# Altium schematic symbol library LimeMicroAltiumLib_schLib.SchLib: 200 symbols (part 6 of 8)
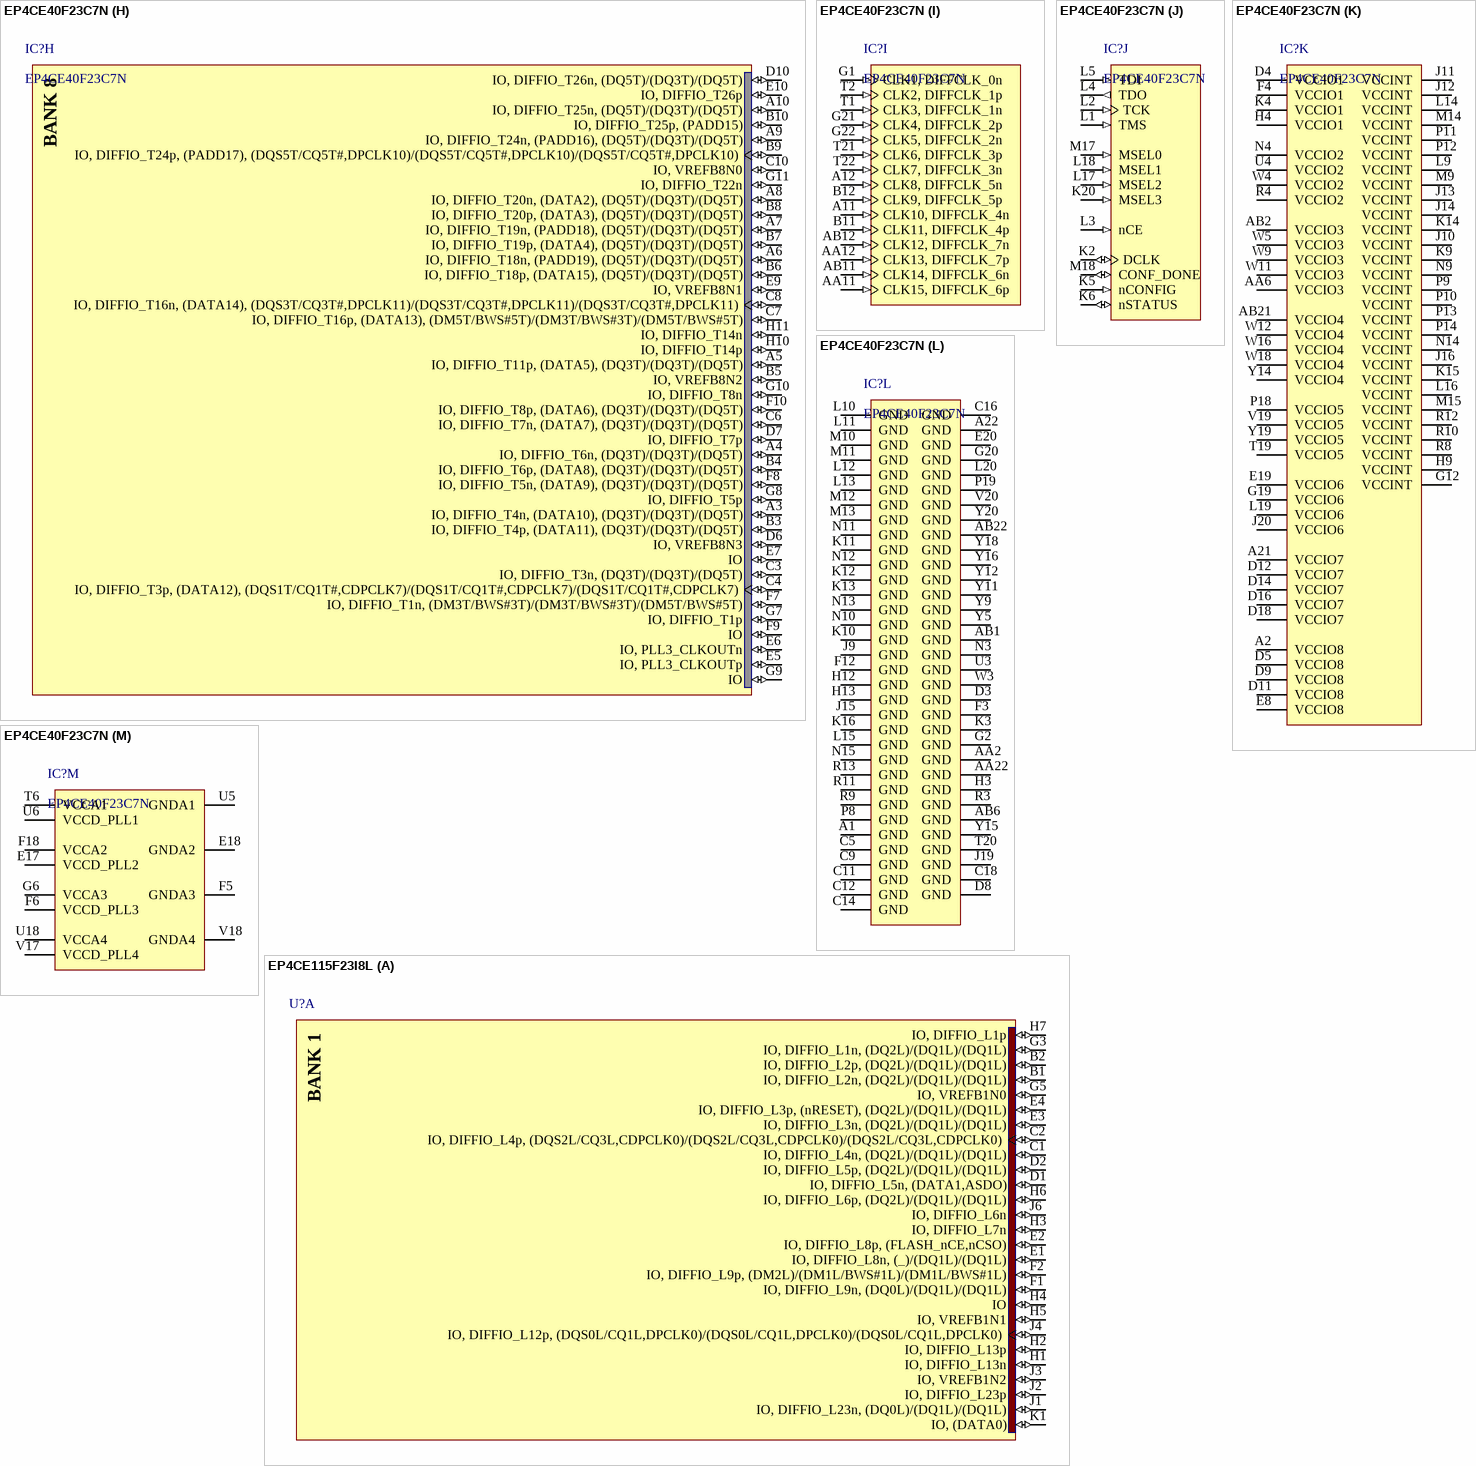
[diagram p39: symbols EP4CE40F23C7N to EP4CE115F23I8L]

## EP4CE40F23C7N
designator IC?
Cyclone IV Family FPGA, 1.2V Core, 328 I/O Pins, 4 PLLs, 484-Pin FBGA, Speed Grade 7, Commercial Grade, Pb-Free; Manufacturer: Altera; DatasheetVersion: ver1.6, Nov-2011; PackageVersion: ver1.0, Jun-2011; PackageReference: FBGA484_A-240; PackageDescription: 484-Pin FineLine Ball Grid Array (FBGA) - Wire Bond - A:2.40; Code_JEDEC: MS-034-AAJ-1; ComponentLink1Description: Manufacturer URL; ComponentLink1URL: http://www.altera.com/; ComponentLink2Description: Handbook; ComponentLink2URL: http://www.altera.com/literature/hb/cyclone-iv/cyclone4-handbook.pdf; ComponentLink3Description: Pinout; ComponentLink3URL: http://www.altera.com/literature/lit-dp.jsp?category=cyc%204&showspreadsheet=y; ComponentLink4Description: Package Specification; ComponentLink4URL: http://www.altera.com/devicepackaging/04R00247-02.pdf
footprint FBGA484_A-240 (BGA, 484-Leads, Body 23x23mm, Pitch 1mm)
part A pins: B1 IO, DIFFIO_L2n, (DQ2L)/(DQ1L)/(DQ1L) (io), B2 IO, DIFFIO_L2p, (DQ2L)/(DQ1L)/(DQ1L) (io), C1 IO, DIFFIO_L7n, (DQ2L)/(DQ1L)/(DQ1L) (io), C2 IO, DIFFIO_L7p, (DQS2L/CQ3L,CDPCLK0)/(DQS2L/CQ3L,CDPCLK0)/(DQS2L/CQ3L,CDPCLK0) (io), D1 IO, DIFFIO_L8n, (DATA1,ASDO) (io), D2 IO, DIFFIO_L8p, (DQ2L)/(DQ1L)/(DQ1L) (io), E1 IO, DIFFIO_L10n, (_)/(DQ1L)/(DQ1L) (io), E2 IO, DIFFIO_L10p, (FLASH_nCE,nCSO) (io), E3 IO, DIFFIO_L4n, (DQ2L)/(DQ1L)/(DQ1L) (io), E4 IO, DIFFIO_L4p, (nRESET), (DQ2L)/(DQ1L)/(DQ1L) (io), F1 IO, DIFFIO_L12n, (DQ0L)/(DQ1L)/(DQ1L) (io), F2 IO, DIFFIO_L12p, (DM2L)/(DM1L/BWS#1L)/(DM1L/BWS#1L) (io), G3 IO, DIFFIO_L1n (io), G4 IO, DIFFIO_L1p (io), G5 IO, VREFB1N0 (io), H1 IO, DIFFIO_L23n, (DQ0L)/(DQ1L)/(DQ1L) (io), H2 IO, DIFFIO_L23p, (DQ0L)/(DQ1L)/(DQ1L) (io), H5 IO, VREFB1N2 (io), H6 IO, DIFFIO_L9p, (DQ2L)/(DQ1L)/(DQ1L) (io), H7 IO, VREFB1N1 (io), H8 IO, DIFFIO_L14p (io), J1 IO, DIFFIO_L24n, (DQ0L)/(DQ1L)/(DQ1L) (io), J2 IO, DIFFIO_L24p, (DQ0L)/(DQ1L)/(DQ1L) (io), J3 IO, VREFB1N3 (io), J4 IO, (DQS0L/CQ1L,DPCLK0)/(DQS0L/CQ1L,DPCLK0)/(DQS0L/CQ1L,DPCLK0) (io), J5 IO, DIFFIO_L18n (io), J6 IO, DIFFIO_L9n, (DQ2L)/(DQ1L)/(DQ1L) (io), J7 IO, DIFFIO_L21p (io), J8 IO, DIFFIO_L14n (io), K1 IO, (DATA0) (io), K7 IO, DIFFIO_L21n (io), K8 IO, DIFFIO_L20n (io), L8 IO, DIFFIO_L20p (io)
part B pins: AA1 IO, DIFFIO_L50n, (DQ3L)/(DQ3L)/(DQ1L) (io), L6 IO, DIFFIO_L26p, (DQ0L)/(DQ1L)/(DQ1L) (io), L7 IO, DIFFIO_L30n (io), M1 IO, DIFFIO_L27n, (_)/(DQ1L)/(DQ1L) (io), M2 IO, DIFFIO_L27p, (DQ0L)/(DQ1L)/(DQ1L) (io), M3 IO, DIFFIO_L28n, (DQ1L)/(DQ3L)/(DQ1L) (io), M4 IO, DIFFIO_L28p, (DM0L)/(DM1L/BWS#1L)/(DM1L/BWS#1L) (io), M5 IO, VREFB2N0 (io), M6 IO, DIFFIO_L26n, (DQ0L)/(DQ1L)/(DQ1L) (io), M7 IO, DIFFIO_L41n (io), M8 IO, DIFFIO_L42p (io), N1 IO, DIFFIO_L29n, (DQ1L)/(DQ3L)/(DQ1L) (io), N2 IO, DIFFIO_L29p, (DQ1L)/(DQ3L)/(DQ1L) (io), N5 IO, (DQ1L)/(DQ3L)/(DQ1L) (io), N6 IO, DIFFIO_L41p, (DQ3L)/(DQ3L)/(DQ1L) (io), N7 IO, DIFFIO_L49p (io), N8 IO, DIFFIO_L42n (io), P1 IO, DIFFIO_L32n, (DQ1L)/(DQ3L)/(DQ1L) (io), P2 IO, DIFFIO_L32p, (DQ1L)/(DQ3L)/(DQ1L) (io), P3 IO, DIFFIO_L34n, (DQ1L)/(DQ3L)/(DQ1L) (io), P4 IO, DIFFIO_L34p, (DQS1L/CQ1L#,DPCLK1)/(DQS1L/CQ1L#,DPCLK1)/(DQS1L/CQ1L#,DPCLK1) (io), P5 IO, VREFB2N1 (io), P6 IO, DIFFIO_L52p (io), P7 IO, DIFFIO_L49n (io), R1 IO, DIFFIO_L33n, (DQ1L)/(DQ3L)/(DQ1L) (io), R2 IO, DIFFIO_L33p, (DQ1L)/(DQ3L)/(DQ1L) (io), R5 IO, VREFB2N3 (io), R6 IO (io), R7 IO, DIFFIO_L53p (io), T3 IO, VREFB2N2 (io), T4 IO, (DQS3L/CQ3L#,CDPCLK1)/(DQS3L/CQ3L#,CDPCLK1)/(DQS3L/CQ3L#,CDPCLK1) (io), T5 IO, (DM3L/BWS#3L)/(DM3L/BWS#3L)/(DM1L/BWS#1L) (io), T7 IO, DIFFIO_L53n (io), U1 IO, DIFFIO_L35n, (DQ3L)/(DQ3L)/(DQ1L) (io), U2 IO, DIFFIO_L35p, (DM1L/BWS#1L)/(DM3L/BWS#3L)/(DM1L/BWS#1L) (io), V1 IO, DIFFIO_L38n, (DQ3L)/(DQ3L)/(DQ1L) (io), V2 IO, DIFFIO_L38p, (DQ3L)/(DQ3L)/(DQ1L) (io), V3 IO, RDN1 (io), V4 IO, RUP1 (io), W1 IO, DIFFIO_L44n, (DQ3L)/(DQ3L)/(DQ1L) (io), W2 IO, DIFFIO_L44p, (DQ3L)/(DQ3L)/(DQ1L) (io), Y1 IO, DIFFIO_L45n, (DQ3L)/(DQ3L)/(DQ1L) (io), Y2 IO, DIFFIO_L45p, (DQ3L)/(DQ3L)/(DQ1L) (io)
part C pins: AA3 IO, PLL1_CLKOUTp (io), AA4 IO, (DQ3B)/(DQ3B)/(DQ5B) (io), AA5 IO, DIFFIO_B8p, (DQ3B)/(DQ3B)/(DQ5B) (io), AA7 IO, DIFFIO_B14p, (DM5B/BWS#5B)/(DM3B/BWS#3B)/(DM5B/BWS#5B) (io), AA8 IO, DIFFIO_B18p, (DQ5B)/(DQ3B)/(DQ5B) (io), AA9 IO, DIFFIO_B21p, (DQ5B)/(DQ3B)/(DQ5B) (io), AA10 IO, DIFFIO_B27p, (DM4B)/(DM5B/BWS#5B)/(DM5B/BWS#5B) (io), AB3 IO, PLL1_CLKOUTn (io), AB4 IO, VREFB3N2 (io), AB5 IO, DIFFIO_B8n (io), AB7 IO, DIFFIO_B14n, (DQ5B)/(DQ3B)/(DQ5B) (io), AB8 IO, DIFFIO_B18n, (DQ5B)/(DQ3B)/(DQ5B) (io), AB9 IO, DIFFIO_B21n, (DQS5B/CQ5B#,DPCLK3)/(DQS5B/CQ5B#,DPCLK3)/(DQS5B/CQ5B#,DPCLK3) (io), AB10 IO, DIFFIO_B27n, (_)/(DQ5B)/(DQ5B) (io), T8 IO, DIFFIO_B11p (io), T9 IO, DIFFIO_B11n (io), T10 IO, DIFFIO_B15p (io), T11 IO, DIFFIO_B15n (io), U7 IO, DIFFIO_B3p (io), U8 IO, DIFFIO_B3n (io), U9 IO, DIFFIO_B13p, (DQ3B)/(DQ3B)/(DQ5B) (io), U10 IO, DIFFIO_B17n, (DQ5B)/(DQ3B)/(DQ5B) (io), U11 IO, VREFB3N0 (io), V5 IO, DIFFIO_B1n, (DM3B/BWS#3B)/(DM3B/BWS#3B)/(DM5B/BWS#5B) (io), V6 IO, DIFFIO_B1p (io), V7 IO, DIFFIO_B7n (io), V8 IO, DIFFIO_B13n, (DQ3B)/(DQ3B)/(DQ5B) (io), V9 IO, VREFB3N1 (io), V10 IO, DIFFIO_B16p, (DQS3B/CQ3B#,DPCLK2)/(DQS3B/CQ3B#,DPCLK2)/(DQS3B/CQ3B#,DPCLK2) (io), V11 IO, DIFFIO_B25n, (DQ5B)/(DQ3B)/(DQ5B) (io), W6 IO, DIFFIO_B7p, (DQ3B)/(DQ3B)/(DQ5B) (io), W7 IO, DIFFIO_B12p, (DQ3B)/(DQ3B)/(DQ5B) (io), W8 IO, (DQ3B)/(DQ3B)/(DQ5B) (io), W10 IO, DIFFIO_B26p, (DQ5B)/(DQ3B)/(DQ5B) (io), Y3 IO, DIFFIO_B4p, (DQ3B)/(DQ3B)/(DQ5B) (io), Y4 IO, VREFB3N3 (io), Y6 IO, DIFFIO_B6p, (DQS1B/CQ1B#,CDPCLK2)/(DQS1B/CQ1B#,CDPCLK2)/(DQS1B/CQ1B#,CDPCLK2) (io), Y7 IO, DIFFIO_B12n, (DQ3B)/(DQ3B)/(DQ5B) (io), Y8 IO, (DQ5B)/(DQ3B)/(DQ5B) (io), Y10 IO, DIFFIO_B26n, (DQ5B)/(DQ3B)/(DQ5B) (io)
part D pins: AA13 IO, DIFFIO_B28p, (DQ4B)/(DQ5B)/(DQ5B) (io), AA14 IO, DIFFIO_B29p, (DQ4B)/(DQ5B)/(DQ5B) (io), AA15 IO, DIFFIO_B33p, (DQ4B)/(DQ5B)/(DQ5B) (io), AA16 IO, DIFFIO_B35p, (DM2B)/(DM5B/BWS#5B)/(DM5B/BWS#5B) (io), AA17 IO, DIFFIO_B43p (io), AA18 IO, VREFB4N1 (io), AA19 IO, RUP2 (io), AA20 IO, DIFFIO_B49p, (_)/(DQ5B)/(DQ5B) (io), AB13 IO, DIFFIO_B28n, (DQ4B)/(DQ5B)/(DQ5B) (io), AB14 IO, DIFFIO_B29n, (DQ4B)/(DQ5B)/(DQ5B) (io), AB15 IO, DIFFIO_B33n, (DQ4B)/(DQ5B)/(DQ5B) (io), AB16 IO, DIFFIO_B35n, (DQ2B)/(DQ5B)/(DQ5B) (io), AB17 IO, DIFFIO_B43n (io), AB18 IO, (DQ2B)/(DQ5B)/(DQ5B) (io), AB19 IO, RDN2 (io), AB20 IO, DIFFIO_B49n, (DQ2B)/(DQ5B)/(DQ5B) (io), R14 IO, DIFFIO_B52p (io), R15 IO, DIFFIO_B52n (io), R16 IO, PLL4_CLKOUTn (io), T12 IO, DIFFIO_B36p (io), T13 IO, DIFFIO_B36n (io), T14 IO, DIFFIO_B42p (io), T15 IO, DIFFIO_B42n, (DQ2B)/(DQ5B)/(DQ5B) (io), T16 IO, PLL4_CLKOUTp (io), U12 IO, DIFFIO_B34p, (DQ4B)/(DQ5B)/(DQ5B) (io), U13 IO, DIFFIO_B38n (io), U14 IO, DIFFIO_B39n (io), U15 IO, DIFFIO_B40p (io), U16 IO, DIFFIO_B50p (io), U17 IO, DIFFIO_B50n (io), V12 IO, VREFB4N3 (io), V13 IO, (DQS2B/CQ3B,DPCLK5)/(DQS2B/CQ3B,DPCLK5)/(DQS2B/CQ3B,DPCLK5) (io), V14 IO, DIFFIO_B39p, (DQ2B)/(DQ5B)/(DQ5B) (io), V15 IO, DIFFIO_B40n, (DQ2B)/(DQ5B)/(DQ5B) (io), V16 IO, VREFB4N0 (io), W13 IO, DIFFIO_B32p, (DQ4B)/(DQ5B)/(DQ5B) (io), W14 IO, VREFB4N2 (io), W15 IO, DIFFIO_B41n, (DQ2B)/(DQ5B)/(DQ5B) (io), W17 IO, DIFFIO_B48p, (DQ2B)/(DQ5B)/(DQ5B) (io), Y13 IO, DIFFIO_B32n, (DQS4B/CQ5B,DPCLK4)/(DQS4B/CQ5B,DPCLK4)/(DQS4B/CQ5B,DPCLK4) (io), Y17 IO, DIFFIO_B48n, (DQS0B/CQ1B,CDPCLK3)/(DQS0B/CQ1B,CDPCLK3)/(DQS0B/CQ1B,CDPCLK3) (io)
part E pins: AA21 IO, DIFFIO_R56p, (DM3R/BWS#3R)/(DM3R/BWS#3R)/(DM1R/BWS#1R) (io), M16 IO, VREFB5N0 (io), M19 IO, DIFFIO_R30p, (DQ1R)/(DQ3R)/(DQ1R) (io), M20 IO, DIFFIO_R30n, (DQ1R)/(DQ3R)/(DQ1R) (io), M21 IO, DIFFIO_R31p, (DQ1R)/(DQ3R)/(DQ1R) (io), M22 IO, DIFFIO_R31n, (DQ1R)/(DQ3R)/(DQ1R) (io), N16 IO, DIFFIO_R40p (io), N17 IO, DIFFIO_R33n (io), N18 IO, DIFFIO_R33p, (DQS1R/CQ1R#,DPCLK6)/(DQS1R/CQ1R#,DPCLK6)/(DQS1R/CQ1R#,DPCLK6) (io), N19 IO, DIFFIO_R36p (io), N20 IO, DIFFIO_R36n, (DQ1R)/(DQ3R)/(DQ1R) (io), N21 IO, DIFFIO_R32p, (DEV_CLRn) (io), N22 IO, DIFFIO_R32n, (DEV_OE) (io), P15 IO, DIFFIO_R46n (io), P16 IO, DIFFIO_R46p (io), P17 IO (io), P20 IO, VREFB5N1 (io), P21 IO, DIFFIO_R38p, (DQ1R)/(DQ3R)/(DQ1R) (io), P22 IO, DIFFIO_R38n, (DQ1R)/(DQ3R)/(DQ1R) (io), R17 IO, VREFB5N2 (io), R18 IO, DIFFIO_R42n (io), R19 IO, DIFFIO_R42p, (DM1R/BWS#1R)/(DM3R/BWS#3R)/(DM1R/BWS#1R) (io), R20 IO, DIFFIO_R44n, (DQ3R)/(DQ3R)/(DQ1R) (io), R21 IO, DIFFIO_R39p, (DQ1R)/(DQ3R)/(DQ1R) (io), R22 IO, DIFFIO_R39n, (DQ1R)/(DQ3R)/(DQ1R) (io), T17 IO, RUP3 (io), T18 IO, RDN3 (io), U19 IO, DIFFIO_R50p (io), U20 IO, DIFFIO_R50n, (DQ3R)/(DQ3R)/(DQ1R) (io), U21 IO, DIFFIO_R43p, (DQ3R)/(DQ3R)/(DQ1R) (io), U22 IO, DIFFIO_R43n, (DQ3R)/(DQ3R)/(DQ1R) (io), V21 IO, DIFFIO_R45p, (DQ3R)/(DQ3R)/(DQ1R) (io), V22 IO, DIFFIO_R45n, (DQ3R)/(DQ3R)/(DQ1R) (io), W19 IO, VREFB5N3 (io), W20 IO, (DQS3R/CQ3R#,CDPCLK4)/(DQS3R/CQ3R#,CDPCLK4)/(DQS3R/CQ3R#,CDPCLK4) (io), W21 IO, DIFFIO_R49p, (DQ3R)/(DQ3R)/(DQ1R) (io), W22 IO, DIFFIO_R49n, (DQ3R)/(DQ3R)/(DQ1R) (io), Y21 IO, DIFFIO_R51p (io), Y22 IO, DIFFIO_R51n, (DQ3R)/(DQ3R)/(DQ1R) (io)
part F pins: B21 IO, DIFFIO_R5p, (PADD21), (DQ2R)/(DQ1R)/(DQ1R) (io), B22 IO, DIFFIO_R5n, (PADD22), (DQ2R)/(DQ1R)/(DQ1R) (io), C20 IO, DIFFIO_R4n, (PADD20), (DQS2R/CQ3R,CDPCLK5)/(DQS2R/CQ3R,CDPCLK5)/(DQS2R/CQ3R,CDPCLK5) (io), C21 IO, DIFFIO_R6p, (DQ2R)/(DQ1R)/(DQ1R) (io), C22 IO, DIFFIO_R6n, (DQ2R)/(DQ1R)/(DQ1R) (io), D20 IO, VREFB6N0 (io), D21 IO, DIFFIO_R9p, (_)/(DQ1R)/(DQ1R) (io), D22 IO, DIFFIO_R9n, (DM2R)/(DM1R/BWS#1R)/(DM1R/BWS#1R) (io), E21 IO, DIFFIO_R12p, (nOE), (_)/(DQ1R)/(DQ1R) (io), E22 IO, DIFFIO_R12n, (nWE), (DQ0R)/(DQ1R)/(DQ1R) (io), F17 IO, DIFFIO_R2n, (DQ2R)/(DQ1R)/(DQ1R) (io), F19 IO, DIFFIO_R8p, (DQ2R)/(DQ1R)/(DQ1R) (io), F20 IO, DIFFIO_R8n, (nAVD), (DQ2R)/(DQ1R)/(DQ1R) (io), F21 IO, DIFFIO_R18p, (DQ0R)/(DQ1R)/(DQ1R) (io), F22 IO, DIFFIO_R18n, (DQ0R)/(DQ1R)/(DQ1R) (io), G17 IO, DIFFIO_R2p (io), G18 IO, DIFFIO_R7n, (PADD23), (DQ2R)/(DQ1R)/(DQ1R) (io), H16 IO, DIFFIO_R10p (io), H17 IO, DIFFIO_R7p (io), H18 IO, VREFB6N1 (io), H19 IO, DIFFIO_R13p, (DQ0R)/(DQ1R)/(DQ1R) (io), H20 IO, DIFFIO_R13n, (DQ0R)/(DQ1R)/(DQ1R) (io), H21 IO, DIFFIO_R22p, (DQ0R)/(DQ1R)/(DQ1R) (io), H22 IO, DIFFIO_R22n, (DQ0R)/(DQ1R)/(DQ1R) (io), J17 IO, DIFFIO_R10n (io), J18 IO, VREFB6N2 (io), J21 IO, DIFFIO_R23p, (DM0R)/(DM1R/BWS#1R)/(DM1R/BWS#1R) (io), J22 IO, DIFFIO_R23n, (DQS0R/CQ1R,DPCLK7)/(DQS0R/CQ1R,DPCLK7)/(DQS0R/CQ1R,DPCLK7) (io), K17 IO, DIFFIO_R20n (io), K18 IO, DIFFIO_R20p, (DQ0R)/(DQ1R)/(DQ1R) (io), K19 IO, VREFB6N3 (io), K21 IO, DIFFIO_R24p, (CLKUSR) (io), K22 IO, DIFFIO_R24n, (nCEO) (io), L21 IO, DIFFIO_R27p, (CRC_ERROR) (io), L22 IO, DIFFIO_R27n, (INIT_DONE) (io)
part G pins: A13 IO, DIFFIO_T29n, (PADD11), (DQ4T)/(DQ5T)/(DQ5T) (io), A14 IO, DIFFIO_T31n, (PADD9), (DQ4T)/(DQ5T)/(DQ5T) (io), A15 IO, DIFFIO_T36n, (PADD5), (DQ4T)/(DQ5T)/(DQ5T) (io), A16 IO, DIFFIO_T40n, (DM2T)/(DM5T/BWS#5T)/(DM5T/BWS#5T) (io), A17 IO, DIFFIO_T41n, (PADD1), (DQ2T)/(DQ5T)/(DQ5T) (io), A18 IO, DIFFIO_T45n, (DQ2T)/(DQ5T)/(DQ5T) (io), A19 IO, RDN4 (io), A20 IO, PLL2_CLKOUTn (io), B13 IO, DIFFIO_T29p, (PADD12), (DQS4T/CQ5T,DPCLK9)/(DQS4T/CQ5T,DPCLK9)/(DQS4T/CQ5T,DPCLK9) (io), B14 IO, DIFFIO_T31p, (PADD10), (DQ4T)/(DQ5T)/(DQ5T) (io), B15 IO, DIFFIO_T36p, (PADD6), (DQ4T)/(DQ5T)/(DQ5T) (io), B16 IO, DIFFIO_T40p, (DQ4T)/(DQ5T)/(DQ5T) (io), B17 IO, DIFFIO_T41p, (PADD2), (_)/(DQ5T)/(DQ5T) (io), B18 IO, DIFFIO_T45p, (PADD0) (io), B19 IO, RUP4 (io), B20 IO, PLL2_CLKOUTp (io), C13 IO, DIFFIO_T35n, (PADD7) (io), C15 IO, VREFB7N2 (io), C17 IO, DIFFIO_T46p, (DQ2T)/(DQ5T)/(DQ5T) (io), C19 IO, DIFFIO_T47n, (DQ2T)/(DQ5T)/(DQ5T) (io), D13 IO, DIFFIO_T35p, (PADD8), (DQ4T)/(DQ5T)/(DQ5T) (io), D15 IO, VREFB7N1 (io), D17 IO, VREFB7N0 (io), D19 IO, DIFFIO_T47p, (DQ2T)/(DQ5T)/(DQ5T) (io), E11 IO, DIFFIO_T27n, (PADD13) (io), E12 IO, DIFFIO_T28p, (_)/(DQ5T)/(DQ5T) (io), E13 IO, VREFB7N3 (io), E14 IO, DIFFIO_T38n, (PADD3), (DQ4T)/(DQ5T)/(DQ5T) (io), E15 IO, DIFFIO_T44n, (DQ2T)/(DQ5T)/(DQ5T) (io), E16 IO, DIFFIO_T51p, (DQ2T)/(DQ5T)/(DQ5T) (io), F11 IO, DIFFIO_T27p, (PADD14), (DM4T)/(DM5T/BWS#5T)/(DM5T/BWS#5T) (io), F13 IO, DIFFIO_T37p, (PADD4), (DQS2T/CQ3T,DPCLK8)/(DQS2T/CQ3T,DPCLK8)/(DQS2T/CQ3T,DPCLK8) (io), F14 IO, DIFFIO_T49p, (DQS0T/CQ1T,CDPCLK6)/(DQS0T/CQ1T,CDPCLK6)/(DQS0T/CQ1T,CDPCLK6) (io), F15 IO, DIFFIO_T50n, (DQ2T)/(DQ5T)/(DQ5T) (io), F16 IO, DIFFIO_T51n (io), G13 IO, DIFFIO_T42n (io), G14 IO, DIFFIO_T44p (io), G15 IO, DIFFIO_T49n (io), G16 IO, DIFFIO_T50p (io), H14 IO, DIFFIO_T48p (io), H15 IO, DIFFIO_T48n (io)
part H pins: A3 IO, DIFFIO_T4n, (DATA10), (DQ3T)/(DQ3T)/(DQ5T) (io), A4 IO, DIFFIO_T6n, (DQ3T)/(DQ3T)/(DQ5T) (io), A5 IO, DIFFIO_T11p, (DATA5), (DQ3T)/(DQ3T)/(DQ5T) (io), A6 IO, DIFFIO_T18n, (PADD19), (DQ5T)/(DQ3T)/(DQ5T) (io), A7 IO, DIFFIO_T19n, (PADD18), (DQ5T)/(DQ3T)/(DQ5T) (io), A8 IO, DIFFIO_T20n, (DATA2), (DQ5T)/(DQ3T)/(DQ5T) (io), A9 IO, DIFFIO_T24n, (PADD16), (DQ5T)/(DQ3T)/(DQ5T) (io), A10 IO, DIFFIO_T25n, (DQ5T)/(DQ3T)/(DQ5T) (io), B3 IO, DIFFIO_T4p, (DATA11), (DQ3T)/(DQ3T)/(DQ5T) (io), B4 IO, DIFFIO_T6p, (DATA8), (DQ3T)/(DQ3T)/(DQ5T) (io), B5 IO, VREFB8N2 (io), B6 IO, DIFFIO_T18p, (DATA15), (DQ5T)/(DQ3T)/(DQ5T) (io), B7 IO, DIFFIO_T19p, (DATA4), (DQ5T)/(DQ3T)/(DQ5T) (io), B8 IO, DIFFIO_T20p, (DATA3), (DQ5T)/(DQ3T)/(DQ5T) (io), B9 IO, DIFFIO_T24p, (PADD17), (DQS5T/CQ5T#,DPCLK10)/(DQS5T/CQ5T#,DPCLK10)/(DQS5T/CQ5T#,DPCLK10) (io), B10 IO, DIFFIO_T25p, (PADD15) (io), C3 IO, DIFFIO_T3n, (DQ3T)/(DQ3T)/(DQ5T) (io), C4 IO, DIFFIO_T3p, (DATA12), (DQS1T/CQ1T#,CDPCLK7)/(DQS1T/CQ1T#,CDPCLK7)/(DQS1T/CQ1T#,CDPCLK7) (io), C6 IO, DIFFIO_T7n, (DATA7), (DQ3T)/(DQ3T)/(DQ5T) (io), C7 IO, DIFFIO_T16p, (DATA13), (DM5T/BWS#5T)/(DM3T/BWS#3T)/(DM5T/BWS#5T) (io), C8 IO, DIFFIO_T16n, (DATA14), (DQS3T/CQ3T#,DPCLK11)/(DQS3T/CQ3T#,DPCLK11)/(DQS3T/CQ3T#,DPCLK11) (io), C10 IO, VREFB8N0 (io), D6 IO, VREFB8N3 (io), D7 IO, DIFFIO_T7p (io), D10 IO, DIFFIO_T26n, (DQ5T)/(DQ3T)/(DQ5T) (io), E5 IO, PLL3_CLKOUTp (io), E6 IO, PLL3_CLKOUTn (io), E7 IO (io), E9 IO, VREFB8N1 (io), E10 IO, DIFFIO_T26p (io), F7 IO, DIFFIO_T1n, (DM3T/BWS#3T)/(DM3T/BWS#3T)/(DM5T/BWS#5T) (io), F8 IO, DIFFIO_T5n, (DATA9), (DQ3T)/(DQ3T)/(DQ5T) (io), F9 IO (io), F10 IO, DIFFIO_T8p, (DATA6), (DQ3T)/(DQ3T)/(DQ5T) (io), G7 IO, DIFFIO_T1p (io), G8 IO, DIFFIO_T5p (io), G9 IO (io), G10 IO, DIFFIO_T8n (io), G11 IO, DIFFIO_T22n (io), H10 IO, DIFFIO_T14p (io), H11 IO, DIFFIO_T14n (io)
part I pins: A11 CLK10, DIFFCLK_4n (in), A12 CLK8, DIFFCLK_5n (in), AA11 CLK15, DIFFCLK_6p (in), AA12 CLK13, DIFFCLK_7p (in), AB11 CLK14, DIFFCLK_6n (in), AB12 CLK12, DIFFCLK_7n (in), B11 CLK11, DIFFCLK_4p (in), B12 CLK9, DIFFCLK_5p (in), G1 CLK1, DIFFCLK_0n (in), G21 CLK4, DIFFCLK_2p (in), G22 CLK5, DIFFCLK_2n (in), T1 CLK3, DIFFCLK_1n (in), T2 CLK2, DIFFCLK_1p (in), T21 CLK6, DIFFCLK_3p (in), T22 CLK7, DIFFCLK_3n (in)
part J pins: K2 DCLK (io), K5 nCONFIG (in), K6 nSTATUS (io), K20 MSEL3 (in), L1 TMS (in), L2 TCK (in), L3 nCE (in), L4 TDO (out), L5 TDI (in), L17 MSEL2 (in), L18 MSEL1 (in), M17 MSEL0 (in), M18 CONF_DONE (io)
part K pins: A2 VCCIO8 (power), A21 VCCIO7 (power), AA6 VCCIO3 (power), AB2 VCCIO3 (power), AB21 VCCIO4 (power), D4 VCCIO1 (power), D5 VCCIO8 (power), D9 VCCIO8 (power), D11 VCCIO8 (power), D12 VCCIO7 (power), D14 VCCIO7 (power), D16 VCCIO7 (power), D18 VCCIO7 (power), E8 VCCIO8 (power), E19 VCCIO6 (power), F4 VCCIO1 (power), G12 VCCINT (power), G19 VCCIO6 (power), H4 VCCIO1 (power), H9 VCCINT (power), J10 VCCINT (power), J11 VCCINT (power), J12 VCCINT (power), J13 VCCINT (power), J14 VCCINT (power), J16 VCCINT (power), J20 VCCIO6 (power), K4 VCCIO1 (power), K9 VCCINT (power), K14 VCCINT (power), K15 VCCINT (power), L9 VCCINT (power), L14 VCCINT (power), L16 VCCINT (power), L19 VCCIO6 (power), M9 VCCINT (power), M14 VCCINT (power), M15 VCCINT (power), N4 VCCIO2 (power), N9 VCCINT (power), N14 VCCINT (power), P9 VCCINT (power), P10 VCCINT (power), P11 VCCINT (power), P12 VCCINT (power), P13 VCCINT (power), P14 VCCINT (power), P18 VCCIO5 (power), R4 VCCIO2 (power), R8 VCCINT (power), R10 VCCINT (power), R12 VCCINT (power), T19 VCCIO5 (power), U4 VCCIO2 (power), V19 VCCIO5 (power), W4 VCCIO2 (power), W5 VCCIO3 (power), W9 VCCIO3 (power), W11 VCCIO3 (power), W12 VCCIO4 (power), W16 VCCIO4 (power), W18 VCCIO4 (power), Y14 VCCIO4 (power), Y19 VCCIO5 (power)
part L pins: A1 GND (power), A22 GND (power), AA2 GND (power), AA22 GND (power), AB1 GND (power), AB6 GND (power), AB22 GND (power), C5 GND (power), C9 GND (power), C11 GND (power), C12 GND (power), C14 GND (power), C16 GND (power), C18 GND (power), D3 GND (power), D8 GND (power), E20 GND (power), F3 GND (power), F12 GND (power), G2 GND (power), G20 GND (power), H3 GND (power), H12 GND (power), H13 GND (power), J9 GND (power), J15 GND (power), J19 GND (power), K3 GND (power), K10 GND (power), K11 GND (power), K12 GND (power), K13 GND (power), K16 GND (power), L10 GND (power), L11 GND (power), L12 GND (power), L13 GND (power), L15 GND (power), L20 GND (power), M10 GND (power), M11 GND (power), M12 GND (power), M13 GND (power), N3 GND (power), N10 GND (power), N11 GND (power), N12 GND (power), N13 GND (power), N15 GND (power), P8 GND (power), P19 GND (power), R3 GND (power), R9 GND (power), R11 GND (power), R13 GND (power), T20 GND (power), U3 GND (power), V20 GND (power), W3 GND (power), Y5 GND (power), Y9 GND (power), Y11 GND (power), Y12 GND (power), Y15 GND (power), Y16 GND (power), Y18 GND (power), Y20 GND (power)
part M pins: E17 VCCD_PLL2 (power), E18 GNDA2 (power), F5 GNDA3 (power), F6 VCCD_PLL3 (power), F18 VCCA2 (power), G6 VCCA3 (power), T6 VCCA1 (power), U5 GNDA1 (power), U6 VCCD_PLL1 (power), U18 VCCA4 (power), V17 VCCD_PLL4 (power), V18 GNDA4 (power)
part A text: BANK 1
part B text: BANK 2
part C text: BANK 3
part D text: BANK 4
part E text: BANK 5
part F text: BANK 6
part G text: BANK 7
part H text: BANK 8

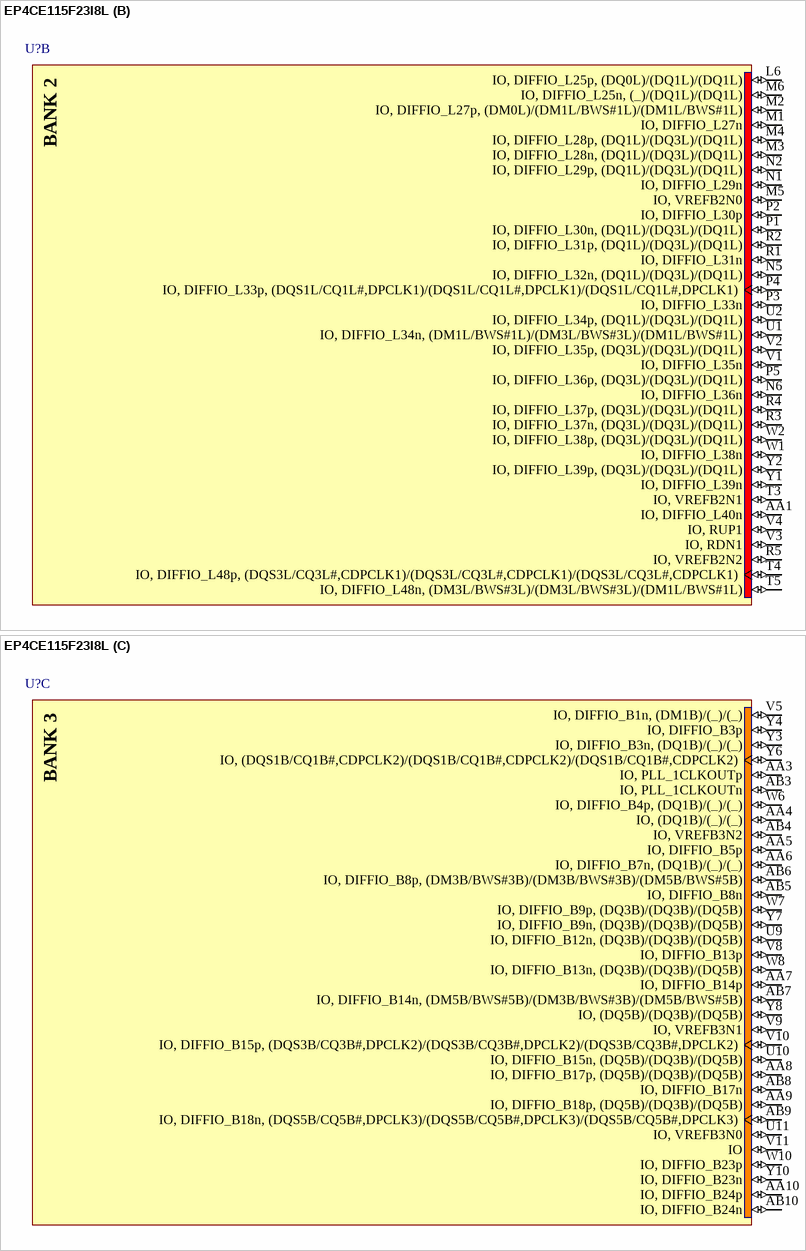
[diagram p22: symbol EP4CE115F23I8L]

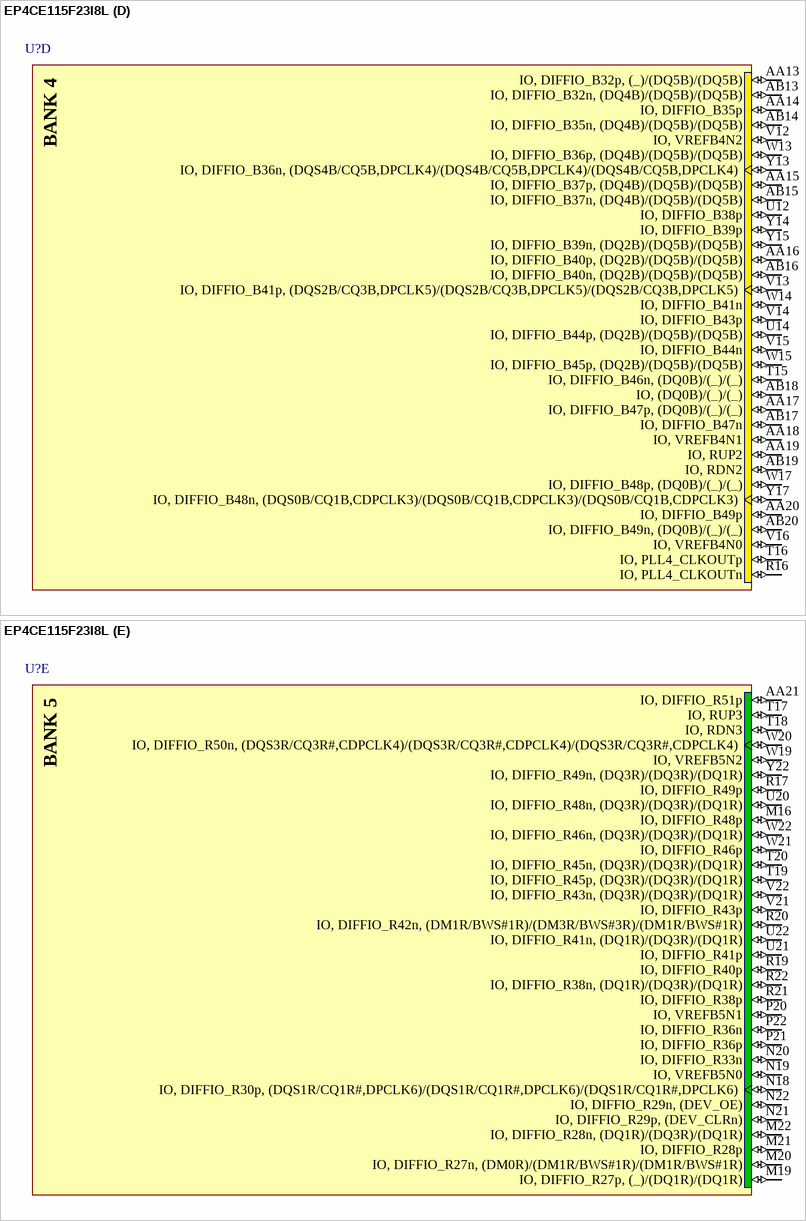
[diagram p23: symbol EP4CE115F23I8L]

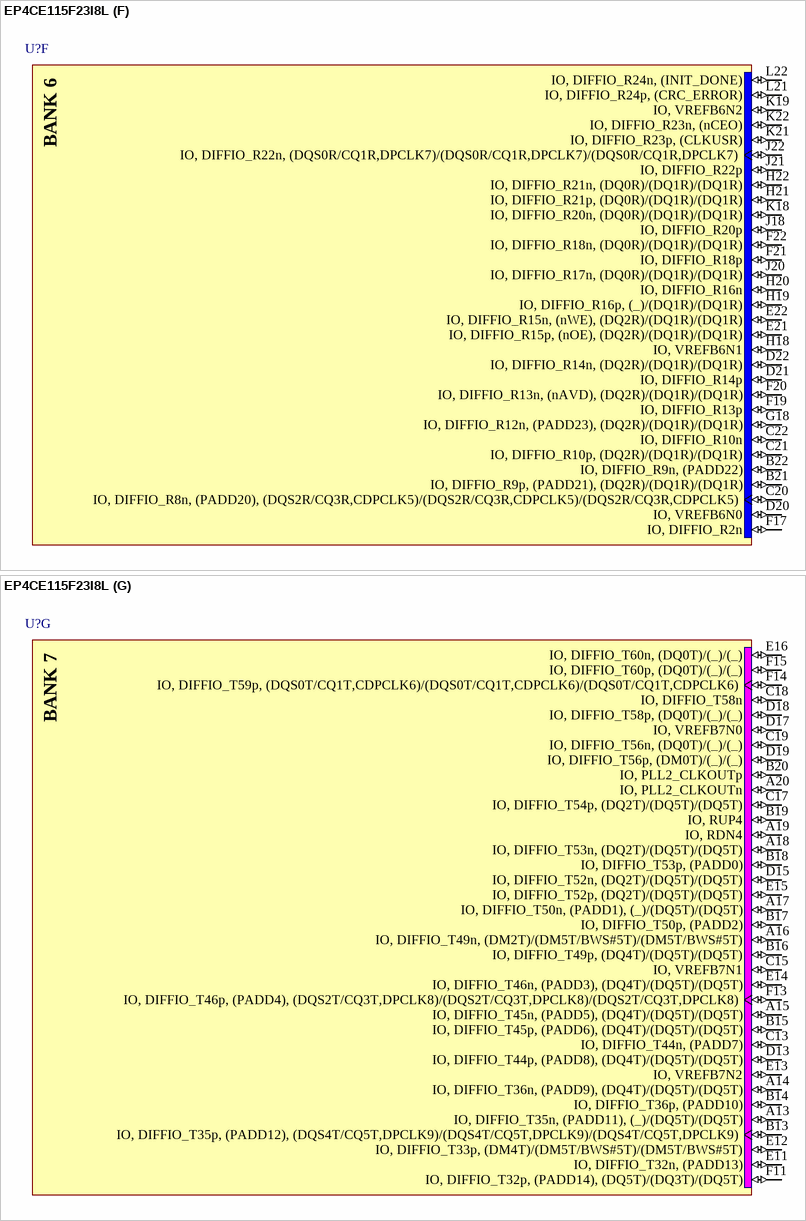
[diagram p24: symbol EP4CE115F23I8L]

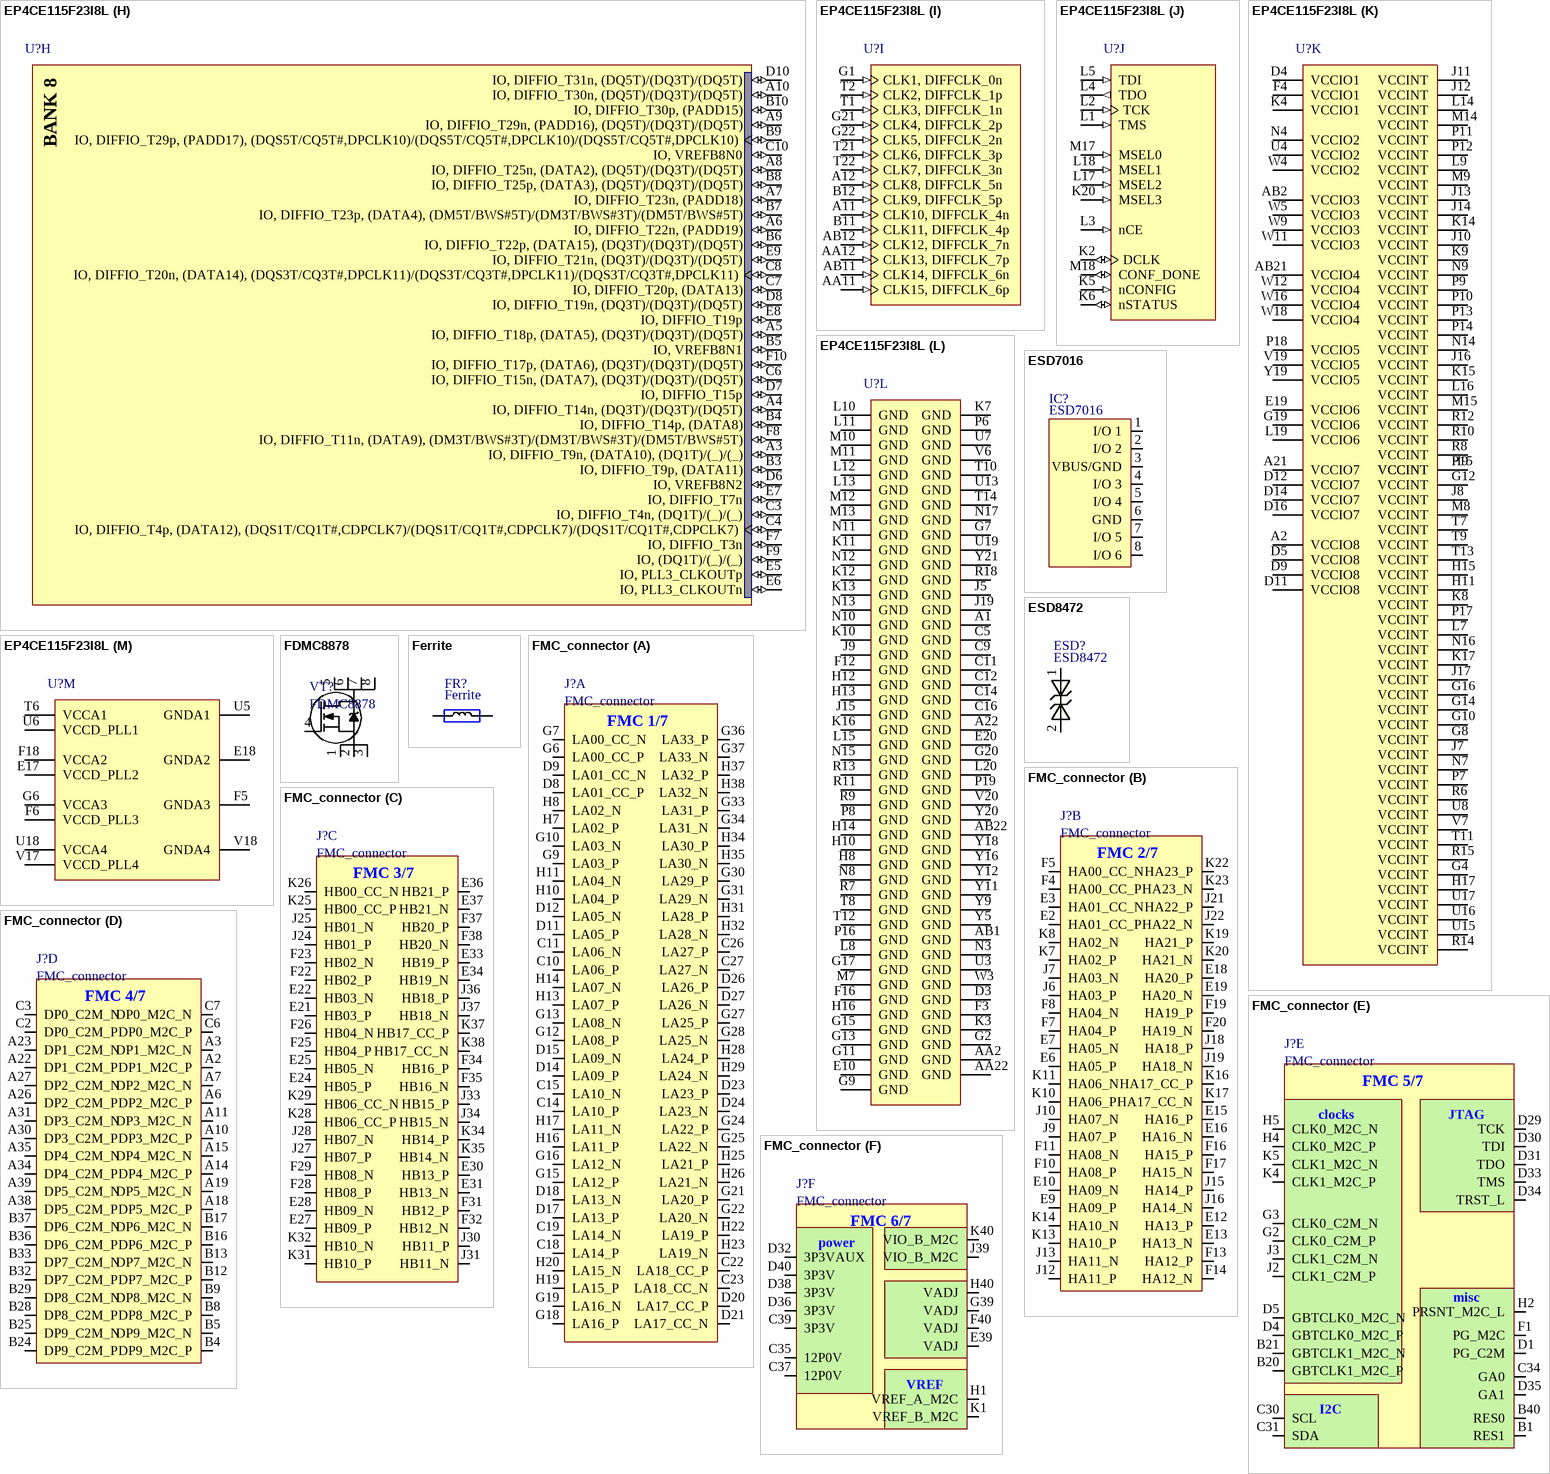
[diagram p25: symbols EP4CE115F23I8L to FMC_connector]

## EP4CE115F23I8L
designator U?
Cyclone IV Family FPGA, 1V Core, 280 I/O Pins, 4 PLLs, 484-Pin FBGA, Speed Grade 8, Industrial Grade; Manufacturer: Altera; DatasheetVersion: ver1.6, Nov-2011; PackageVersion: ver1.0, Jun-2011; PackageReference: FBGA484_A-240; PackageDescription: 484-Pin FineLine Ball Grid Array (FBGA) - Wire Bond - A:2.40; Code_JEDEC: MS-034-AAJ-1; ComponentLink1Description: Manufacturer URL; ComponentLink1URL: http://www.altera.com/; ComponentLink2Description: Handbook; ComponentLink2URL: http://www.altera.com/literature/hb/cyclone-iv/cyclone4-handbook.pdf; ComponentLink3Description: Pinout; ComponentLink3URL: http://www.altera.com/literature/lit-dp.jsp?category=cyc%204&showspreadsheet=y; ComponentLink4Description: Package Specification; ComponentLink4URL: http://www.altera.com/devicepackaging/04R00247-02.pdf
footprint ALTR-FBGA484_A-200 (BGA, 484-Balls, Body 23x23mm, Pitch 1mm)
part A pins: B1 IO, DIFFIO_L2n, (DQ2L)/(DQ1L)/(DQ1L) (io), B2 IO, DIFFIO_L2p, (DQ2L)/(DQ1L)/(DQ1L) (io), C1 IO, DIFFIO_L4n, (DQ2L)/(DQ1L)/(DQ1L) (io), C2 IO, DIFFIO_L4p, (DQS2L/CQ3L,CDPCLK0)/(DQS2L/CQ3L,CDPCLK0)/(DQS2L/CQ3L,CDPCLK0) (io), D1 IO, DIFFIO_L5n, (DATA1,ASDO) (io), D2 IO, DIFFIO_L5p, (DQ2L)/(DQ1L)/(DQ1L) (io), E1 IO, DIFFIO_L8n, (_)/(DQ1L)/(DQ1L) (io), E2 IO, DIFFIO_L8p, (FLASH_nCE,nCSO) (io), E3 IO, DIFFIO_L3n, (DQ2L)/(DQ1L)/(DQ1L) (io), E4 IO, DIFFIO_L3p, (nRESET), (DQ2L)/(DQ1L)/(DQ1L) (io), F1 IO, DIFFIO_L9n, (DQ0L)/(DQ1L)/(DQ1L) (io), F2 IO, DIFFIO_L9p, (DM2L)/(DM1L/BWS#1L)/(DM1L/BWS#1L) (io), G3 IO, DIFFIO_L1n, (DQ2L)/(DQ1L)/(DQ1L) (io), G5 IO, VREFB1N0 (io), H1 IO, DIFFIO_L13n (io), H2 IO, DIFFIO_L13p (io), H3 IO, DIFFIO_L7n (io), H4 IO (io), H5 IO, VREFB1N1 (io), H6 IO, DIFFIO_L6p, (DQ2L)/(DQ1L)/(DQ1L) (io), H7 IO, DIFFIO_L1p (io), J1 IO, DIFFIO_L23n, (DQ0L)/(DQ1L)/(DQ1L) (io), J2 IO, DIFFIO_L23p (io), J3 IO, VREFB1N2 (io), J4 IO, DIFFIO_L12p, (DQS0L/CQ1L,DPCLK0)/(DQS0L/CQ1L,DPCLK0)/(DQS0L/CQ1L,DPCLK0) (io), J6 IO, DIFFIO_L6n (io), K1 IO, (DATA0) (io)
part B pins: AA1 IO, DIFFIO_L40n (io), L6 IO, DIFFIO_L25p, (DQ0L)/(DQ1L)/(DQ1L) (io), M1 IO, DIFFIO_L27n (io), M2 IO, DIFFIO_L27p, (DM0L)/(DM1L/BWS#1L)/(DM1L/BWS#1L) (io), M3 IO, DIFFIO_L28n, (DQ1L)/(DQ3L)/(DQ1L) (io), M4 IO, DIFFIO_L28p, (DQ1L)/(DQ3L)/(DQ1L) (io), M5 IO, VREFB2N0 (io), M6 IO, DIFFIO_L25n, (_)/(DQ1L)/(DQ1L) (io), N1 IO, DIFFIO_L29n (io), N2 IO, DIFFIO_L29p, (DQ1L)/(DQ3L)/(DQ1L) (io), N5 IO, DIFFIO_L32n, (DQ1L)/(DQ3L)/(DQ1L) (io), N6 IO, DIFFIO_L36n (io), P1 IO, DIFFIO_L30n, (DQ1L)/(DQ3L)/(DQ1L) (io), P2 IO, DIFFIO_L30p (io), P3 IO, DIFFIO_L33n (io), P4 IO, DIFFIO_L33p, (DQS1L/CQ1L#,DPCLK1)/(DQS1L/CQ1L#,DPCLK1)/(DQS1L/CQ1L#,DPCLK1) (io), P5 IO, DIFFIO_L36p, (DQ3L)/(DQ3L)/(DQ1L) (io), R1 IO, DIFFIO_L31n (io), R2 IO, DIFFIO_L31p, (DQ1L)/(DQ3L)/(DQ1L) (io), R3 IO, DIFFIO_L37n, (DQ3L)/(DQ3L)/(DQ1L) (io), R4 IO, DIFFIO_L37p, (DQ3L)/(DQ3L)/(DQ1L) (io), R5 IO, VREFB2N2 (io), T3 IO, VREFB2N1 (io), T4 IO, DIFFIO_L48p, (DQS3L/CQ3L#,CDPCLK1)/(DQS3L/CQ3L#,CDPCLK1)/(DQS3L/CQ3L#,CDPCLK1) (io), T5 IO, DIFFIO_L48n, (DM3L/BWS#3L)/(DM3L/BWS#3L)/(DM1L/BWS#1L) (io), U1 IO, DIFFIO_L34n, (DM1L/BWS#1L)/(DM3L/BWS#3L)/(DM1L/BWS#1L) (io), U2 IO, DIFFIO_L34p, (DQ1L)/(DQ3L)/(DQ1L) (io), V1 IO, DIFFIO_L35n (io), V2 IO, DIFFIO_L35p, (DQ3L)/(DQ3L)/(DQ1L) (io), V3 IO, RDN1 (io), V4 IO, RUP1 (io), W1 IO, DIFFIO_L38n (io), W2 IO, DIFFIO_L38p, (DQ3L)/(DQ3L)/(DQ1L) (io), Y1 IO, DIFFIO_L39n (io), Y2 IO, DIFFIO_L39p, (DQ3L)/(DQ3L)/(DQ1L) (io)
part C pins: AA3 IO, PLL_1CLKOUTp (io), AA4 IO, (DQ1B)/(_)/(_) (io), AA5 IO, DIFFIO_B5p (io), AA6 IO, DIFFIO_B7n, (DQ1B)/(_)/(_) (io), AA7 IO, DIFFIO_B14p (io), AA8 IO, DIFFIO_B17p, (DQ5B)/(DQ3B)/(DQ5B) (io), AA9 IO, DIFFIO_B18p, (DQ5B)/(DQ3B)/(DQ5B) (io), AA10 IO, DIFFIO_B24p (io), AB3 IO, PLL_1CLKOUTn (io), AB4 IO, VREFB3N2 (io), AB5 IO, DIFFIO_B8n (io), AB6 IO, DIFFIO_B8p, (DM3B/BWS#3B)/(DM3B/BWS#3B)/(DM5B/BWS#5B) (io), AB7 IO, DIFFIO_B14n, (DM5B/BWS#5B)/(DM3B/BWS#3B)/(DM5B/BWS#5B) (io), AB8 IO, DIFFIO_B17n (io), AB9 IO, DIFFIO_B18n, (DQS5B/CQ5B#,DPCLK3)/(DQS5B/CQ5B#,DPCLK3)/(DQS5B/CQ5B#,DPCLK3) (io), AB10 IO, DIFFIO_B24n (io), U9 IO, DIFFIO_B12n, (DQ3B)/(DQ3B)/(DQ5B) (io), U10 IO, DIFFIO_B15n, (DQ5B)/(DQ3B)/(DQ5B) (io), U11 IO, VREFB3N0 (io), V5 IO, DIFFIO_B1n, (DM1B)/(_)/(_) (io), V8 IO, DIFFIO_B13p (io), V9 IO, VREFB3N1 (io), V10 IO, DIFFIO_B15p, (DQS3B/CQ3B#,DPCLK2)/(DQS3B/CQ3B#,DPCLK2)/(DQS3B/CQ3B#,DPCLK2) (io), V11 IO (io), W6 IO, DIFFIO_B4p, (DQ1B)/(_)/(_) (io), W7 IO, DIFFIO_B9p, (DQ3B)/(DQ3B)/(DQ5B) (io), W8 IO, DIFFIO_B13n, (DQ3B)/(DQ3B)/(DQ5B) (io), W10 IO, DIFFIO_B23p (io), Y3 IO, DIFFIO_B3n, (DQ1B)/(_)/(_) (io), Y4 IO, DIFFIO_B3p (io), Y6 IO, (DQS1B/CQ1B#,CDPCLK2)/(DQS1B/CQ1B#,CDPCLK2)/(DQS1B/CQ1B#,CDPCLK2) (io), Y7 IO, DIFFIO_B9n, (DQ3B)/(DQ3B)/(DQ5B) (io), Y8 IO, (DQ5B)/(DQ3B)/(DQ5B) (io), Y10 IO, DIFFIO_B23n (io)
part D pins: AA13 IO, DIFFIO_B32p, (_)/(DQ5B)/(DQ5B) (io), AA14 IO, DIFFIO_B35p (io), AA15 IO, DIFFIO_B37p, (DQ4B)/(DQ5B)/(DQ5B) (io), AA16 IO, DIFFIO_B40p, (DQ2B)/(DQ5B)/(DQ5B) (io), AA17 IO, DIFFIO_B47p, (DQ0B)/(_)/(_) (io), AA18 IO, VREFB4N1 (io), AA19 IO, RUP2 (io), AA20 IO, DIFFIO_B49p (io), AB13 IO, DIFFIO_B32n, (DQ4B)/(DQ5B)/(DQ5B) (io), AB14 IO, DIFFIO_B35n, (DQ4B)/(DQ5B)/(DQ5B) (io), AB15 IO, DIFFIO_B37n, (DQ4B)/(DQ5B)/(DQ5B) (io), AB16 IO, DIFFIO_B40n, (DQ2B)/(DQ5B)/(DQ5B) (io), AB17 IO, DIFFIO_B47n (io), AB18 IO, (DQ0B)/(_)/(_) (io), AB19 IO, RDN2 (io), AB20 IO, DIFFIO_B49n, (DQ0B)/(_)/(_) (io), R16 IO, PLL4_CLKOUTn (io), T15 IO, DIFFIO_B46n, (DQ0B)/(_)/(_) (io), T16 IO, PLL4_CLKOUTp (io), U12 IO, DIFFIO_B38p (io), U14 IO, DIFFIO_B44p, (DQ2B)/(DQ5B)/(DQ5B) (io), V12 IO, VREFB4N2 (io), V13 IO, DIFFIO_B41p, (DQS2B/CQ3B,DPCLK5)/(DQS2B/CQ3B,DPCLK5)/(DQS2B/CQ3B,DPCLK5) (io), V14 IO, DIFFIO_B43p (io), V15 IO, DIFFIO_B44n (io), V16 IO, VREFB4N0 (io), W13 IO, DIFFIO_B36p, (DQ4B)/(DQ5B)/(DQ5B) (io), W14 IO, DIFFIO_B41n (io), W15 IO, DIFFIO_B45p, (DQ2B)/(DQ5B)/(DQ5B) (io), W17 IO, DIFFIO_B48p, (DQ0B)/(_)/(_) (io), Y13 IO, DIFFIO_B36n, (DQS4B/CQ5B,DPCLK4)/(DQS4B/CQ5B,DPCLK4)/(DQS4B/CQ5B,DPCLK4) (io), Y14 IO, DIFFIO_B39p (io), Y15 IO, DIFFIO_B39n, (DQ2B)/(DQ5B)/(DQ5B) (io), Y17 IO, DIFFIO_B48n, (DQS0B/CQ1B,CDPCLK3)/(DQS0B/CQ1B,CDPCLK3)/(DQS0B/CQ1B,CDPCLK3) (io)
part E pins: AA21 IO, DIFFIO_R51p (io), M16 IO, DIFFIO_R48p (io), M19 IO, DIFFIO_R27p, (_)/(DQ1R)/(DQ1R) (io), M20 IO, DIFFIO_R27n, (DM0R)/(DM1R/BWS#1R)/(DM1R/BWS#1R) (io), M21 IO, DIFFIO_R28p (io), M22 IO, DIFFIO_R28n, (DQ1R)/(DQ3R)/(DQ1R) (io), N18 IO, DIFFIO_R30p, (DQS1R/CQ1R#,DPCLK6)/(DQS1R/CQ1R#,DPCLK6)/(DQS1R/CQ1R#,DPCLK6) (io), N19 IO, VREFB5N0 (io), N20 IO, DIFFIO_R33n (io), N21 IO, DIFFIO_R29p, (DEV_CLRn) (io), N22 IO, DIFFIO_R29n, (DEV_OE) (io), P20 IO, VREFB5N1 (io), P21 IO, DIFFIO_R36p (io), P22 IO, DIFFIO_R36n (io), R17 IO, DIFFIO_R49p (io), R19 IO, DIFFIO_R40p (io), R20 IO, DIFFIO_R42n, (DM1R/BWS#1R)/(DM3R/BWS#3R)/(DM1R/BWS#1R) (io), R21 IO, DIFFIO_R38p (io), R22 IO, DIFFIO_R38n, (DQ1R)/(DQ3R)/(DQ1R) (io), T17 IO, RUP3 (io), T18 IO, RDN3 (io), T19 IO, DIFFIO_R45p, (DQ3R)/(DQ3R)/(DQ1R) (io), T20 IO, DIFFIO_R45n, (DQ3R)/(DQ3R)/(DQ1R) (io), U20 IO, DIFFIO_R48n, (DQ3R)/(DQ3R)/(DQ1R) (io), U21 IO, DIFFIO_R41p (io), U22 IO, DIFFIO_R41n, (DQ1R)/(DQ3R)/(DQ1R) (io), V21 IO, DIFFIO_R43p (io), V22 IO, DIFFIO_R43n, (DQ3R)/(DQ3R)/(DQ1R) (io), W19 IO, VREFB5N2 (io), W20 IO, DIFFIO_R50n, (DQS3R/CQ3R#,CDPCLK4)/(DQS3R/CQ3R#,CDPCLK4)/(DQS3R/CQ3R#,CDPCLK4) (io), W21 IO, DIFFIO_R46p (io), W22 IO, DIFFIO_R46n, (DQ3R)/(DQ3R)/(DQ1R) (io), Y22 IO, DIFFIO_R49n, (DQ3R)/(DQ3R)/(DQ1R) (io)
part F pins: B21 IO, DIFFIO_R9p, (PADD21), (DQ2R)/(DQ1R)/(DQ1R) (io), B22 IO, DIFFIO_R9n, (PADD22) (io), C20 IO, DIFFIO_R8n, (PADD20), (DQS2R/CQ3R,CDPCLK5)/(DQS2R/CQ3R,CDPCLK5)/(DQS2R/CQ3R,CDPCLK5) (io), C21 IO, DIFFIO_R10p, (DQ2R)/(DQ1R)/(DQ1R) (io), C22 IO, DIFFIO_R10n (io), D20 IO, VREFB6N0 (io), D21 IO, DIFFIO_R14p (io), D22 IO, DIFFIO_R14n, (DQ2R)/(DQ1R)/(DQ1R) (io), E21 IO, DIFFIO_R15p, (nOE), (DQ2R)/(DQ1R)/(DQ1R) (io), E22 IO, DIFFIO_R15n, (nWE), (DQ2R)/(DQ1R)/(DQ1R) (io), F17 IO, DIFFIO_R2n (io), F19 IO, DIFFIO_R13p (io), F20 IO, DIFFIO_R13n, (nAVD), (DQ2R)/(DQ1R)/(DQ1R) (io), F21 IO, DIFFIO_R18p (io), F22 IO, DIFFIO_R18n, (DQ0R)/(DQ1R)/(DQ1R) (io), G18 IO, DIFFIO_R12n, (PADD23), (DQ2R)/(DQ1R)/(DQ1R) (io), H18 IO, VREFB6N1 (io), H19 IO, DIFFIO_R16p, (_)/(DQ1R)/(DQ1R) (io), H20 IO, DIFFIO_R16n (io), H21 IO, DIFFIO_R21p, (DQ0R)/(DQ1R)/(DQ1R) (io), H22 IO, DIFFIO_R21n, (DQ0R)/(DQ1R)/(DQ1R) (io), J18 IO, DIFFIO_R20p (io), J20 IO, DIFFIO_R17n, (DQ0R)/(DQ1R)/(DQ1R) (io), J21 IO, DIFFIO_R22p (io), J22 IO, DIFFIO_R22n, (DQS0R/CQ1R,DPCLK7)/(DQS0R/CQ1R,DPCLK7)/(DQS0R/CQ1R,DPCLK7) (io), K18 IO, DIFFIO_R20n, (DQ0R)/(DQ1R)/(DQ1R) (io), K19 IO, VREFB6N2 (io), K21 IO, DIFFIO_R23p, (CLKUSR) (io), K22 IO, DIFFIO_R23n, (nCEO) (io), L21 IO, DIFFIO_R24p, (CRC_ERROR) (io), L22 IO, DIFFIO_R24n, (INIT_DONE) (io)
part G pins: A13 IO, DIFFIO_T35n, (PADD11), (_)/(DQ5T)/(DQ5T) (io), A14 IO, DIFFIO_T36n, (PADD9), (DQ4T)/(DQ5T)/(DQ5T) (io), A15 IO, DIFFIO_T45n, (PADD5), (DQ4T)/(DQ5T)/(DQ5T) (io), A16 IO, DIFFIO_T49n, (DM2T)/(DM5T/BWS#5T)/(DM5T/BWS#5T) (io), A17 IO, DIFFIO_T50n, (PADD1), (_)/(DQ5T)/(DQ5T) (io), A18 IO, DIFFIO_T53n, (DQ2T)/(DQ5T)/(DQ5T) (io), A19 IO, RDN4 (io), A20 IO, PLL2_CLKOUTn (io), B13 IO, DIFFIO_T35p, (PADD12), (DQS4T/CQ5T,DPCLK9)/(DQS4T/CQ5T,DPCLK9)/(DQS4T/CQ5T,DPCLK9) (io), B14 IO, DIFFIO_T36p, (PADD10) (io), B15 IO, DIFFIO_T45p, (PADD6), (DQ4T)/(DQ5T)/(DQ5T) (io), B16 IO, DIFFIO_T49p, (DQ4T)/(DQ5T)/(DQ5T) (io), B17 IO, DIFFIO_T50p, (PADD2) (io), B18 IO, DIFFIO_T53p, (PADD0) (io), B19 IO, RUP4 (io), B20 IO, PLL2_CLKOUTp (io), C13 IO, DIFFIO_T44n, (PADD7) (io), C15 IO, VREFB7N1 (io), C17 IO, DIFFIO_T54p, (DQ2T)/(DQ5T)/(DQ5T) (io), C18 IO, DIFFIO_T58n (io), C19 IO, DIFFIO_T56n, (DQ0T)/(_)/(_) (io), D13 IO, DIFFIO_T44p, (PADD8), (DQ4T)/(DQ5T)/(DQ5T) (io), D15 IO, DIFFIO_T52n, (DQ2T)/(DQ5T)/(DQ5T) (io), D17 IO, VREFB7N0 (io), D18 IO, DIFFIO_T58p, (DQ0T)/(_)/(_) (io), D19 IO, DIFFIO_T56p, (DM0T)/(_)/(_) (io), E11 IO, DIFFIO_T32n, (PADD13) (io), E12 IO, DIFFIO_T33p, (DM4T)/(DM5T/BWS#5T)/(DM5T/BWS#5T) (io), E13 IO, VREFB7N2 (io), E14 IO, DIFFIO_T46n, (PADD3), (DQ4T)/(DQ5T)/(DQ5T) (io), E15 IO, DIFFIO_T52p, (DQ2T)/(DQ5T)/(DQ5T) (io), E16 IO, DIFFIO_T60n, (DQ0T)/(_)/(_) (io), F11 IO, DIFFIO_T32p, (PADD14), (DQ5T)/(DQ3T)/(DQ5T) (io), F13 IO, DIFFIO_T46p, (PADD4), (DQS2T/CQ3T,DPCLK8)/(DQS2T/CQ3T,DPCLK8)/(DQS2T/CQ3T,DPCLK8) (io), F14 IO, DIFFIO_T59p, (DQS0T/CQ1T,CDPCLK6)/(DQS0T/CQ1T,CDPCLK6)/(DQS0T/CQ1T,CDPCLK6) (io), F15 IO, DIFFIO_T60p, (DQ0T)/(_)/(_) (io)
part H pins: A3 IO, DIFFIO_T9n, (DATA10), (DQ1T)/(_)/(_) (io), A4 IO, DIFFIO_T14n, (DQ3T)/(DQ3T)/(DQ5T) (io), A5 IO, DIFFIO_T18p, (DATA5), (DQ3T)/(DQ3T)/(DQ5T) (io), A6 IO, DIFFIO_T22n, (PADD19) (io), A7 IO, DIFFIO_T23n, (PADD18) (io), A8 IO, DIFFIO_T25n, (DATA2), (DQ5T)/(DQ3T)/(DQ5T) (io), A9 IO, DIFFIO_T29n, (PADD16), (DQ5T)/(DQ3T)/(DQ5T) (io), A10 IO, DIFFIO_T30n, (DQ5T)/(DQ3T)/(DQ5T) (io), B3 IO, DIFFIO_T9p, (DATA11) (io), B4 IO, DIFFIO_T14p, (DATA8) (io), B5 IO, VREFB8N1 (io), B6 IO, DIFFIO_T22p, (DATA15), (DQ3T)/(DQ3T)/(DQ5T) (io), B7 IO, DIFFIO_T23p, (DATA4), (DM5T/BWS#5T)/(DM3T/BWS#3T)/(DM5T/BWS#5T) (io), B8 IO, DIFFIO_T25p, (DATA3), (DQ5T)/(DQ3T)/(DQ5T) (io), B9 IO, DIFFIO_T29p, (PADD17), (DQS5T/CQ5T#,DPCLK10)/(DQS5T/CQ5T#,DPCLK10)/(DQS5T/CQ5T#,DPCLK10) (io), B10 IO, DIFFIO_T30p, (PADD15) (io), C3 IO, DIFFIO_T4n, (DQ1T)/(_)/(_) (io), C4 IO, DIFFIO_T4p, (DATA12), (DQS1T/CQ1T#,CDPCLK7)/(DQS1T/CQ1T#,CDPCLK7)/(DQS1T/CQ1T#,CDPCLK7) (io), C6 IO, DIFFIO_T15n, (DATA7), (DQ3T)/(DQ3T)/(DQ5T) (io), C7 IO, DIFFIO_T20p, (DATA13) (io), C8 IO, DIFFIO_T20n, (DATA14), (DQS3T/CQ3T#,DPCLK11)/(DQS3T/CQ3T#,DPCLK11)/(DQS3T/CQ3T#,DPCLK11) (io), C10 IO, VREFB8N0 (io), D6 IO, VREFB8N2 (io), D7 IO, DIFFIO_T15p (io), D8 IO, DIFFIO_T19n, (DQ3T)/(DQ3T)/(DQ5T) (io), D10 IO, DIFFIO_T31n, (DQ5T)/(DQ3T)/(DQ5T) (io), E5 IO, PLL3_CLKOUTp (io), E6 IO, PLL3_CLKOUTn (io), E7 IO, DIFFIO_T7n (io), E8 IO, DIFFIO_T19p (io), E9 IO, DIFFIO_T21n, (DQ3T)/(DQ3T)/(DQ5T) (io), F7 IO, DIFFIO_T3n (io), F8 IO, DIFFIO_T11n, (DATA9), (DM3T/BWS#3T)/(DM3T/BWS#3T)/(DM5T/BWS#5T) (io), F9 IO, (DQ1T)/(_)/(_) (io), F10 IO, DIFFIO_T17p, (DATA6), (DQ3T)/(DQ3T)/(DQ5T) (io)
part I pins: A11 CLK10, DIFFCLK_4n (in), A12 CLK8, DIFFCLK_5n (in), AA11 CLK15, DIFFCLK_6p (in), AA12 CLK13, DIFFCLK_7p (in), AB11 CLK14, DIFFCLK_6n (in), AB12 CLK12, DIFFCLK_7n (in), B11 CLK11, DIFFCLK_4p (in), B12 CLK9, DIFFCLK_5p (in), G1 CLK1, DIFFCLK_0n (in), G21 CLK4, DIFFCLK_2p (in), G22 CLK5, DIFFCLK_2n (in), T1 CLK3, DIFFCLK_1n (in), T2 CLK2, DIFFCLK_1p (in), T21 CLK6, DIFFCLK_3p (in), T22 CLK7, DIFFCLK_3n (in)
part J pins: K2 DCLK (io), K5 nCONFIG (in), K6 nSTATUS (io), K20 MSEL3 (in), L1 TMS (in), L2 TCK (in), L3 nCE (in), L4 TDO (out), L5 TDI (in), L17 MSEL2 (in), L18 MSEL1 (in), M17 MSEL0 (in), M18 CONF_DONE (io)
part K pins: A2 VCCIO8 (power), A21 VCCIO7 (power), AB2 VCCIO3 (power), AB21 VCCIO4 (power), D4 VCCIO1 (power), D5 VCCIO8 (power), D9 VCCIO8 (power), D11 VCCIO8 (power), D12 VCCIO7 (power), D14 VCCIO7 (power), D16 VCCIO7 (power), E19 VCCIO6 (power), F4 VCCIO1 (power), G4 VCCINT (power), G8 VCCINT (power), G10 VCCINT (power), G12 VCCINT (power), G14 VCCINT (power), G16 VCCINT (power), G19 VCCIO6 (power), H9 VCCINT (power), H11 VCCINT (power), H15 VCCINT (power), H17 VCCINT (power), J7 VCCINT (power), J8 VCCINT (power), J10 VCCINT (power), J11 VCCINT (power), J12 VCCINT (power), J13 VCCINT (power), J14 VCCINT (power), J16 VCCINT (power), J17 VCCINT (power), K4 VCCIO1 (power), K8 VCCINT (power), K9 VCCINT (power), K14 VCCINT (power), K15 VCCINT (power), K17 VCCINT (power), L7 VCCINT (power), L9 VCCINT (power), L14 VCCINT (power), L16 VCCINT (power), L19 VCCIO6 (power), M8 VCCINT (power), M9 VCCINT (power), M14 VCCINT (power), M15 VCCINT (power), N4 VCCIO2 (power), N7 VCCINT (power), N9 VCCINT (power), N14 VCCINT (power), N16 VCCINT (power), P7 VCCINT (power), P9 VCCINT (power), P10 VCCINT (power), P11 VCCINT (power), P12 VCCINT (power), P13 VCCINT (power), P14 VCCINT (power), P15 VCCINT (power), P17 VCCINT (power), P18 VCCIO5 (power), R6 VCCINT (power), R8 VCCINT (power), R10 VCCINT (power), R12 VCCINT (power), R14 VCCINT (power), R15 VCCINT (power), T7 VCCINT (power), T9 VCCINT (power), T11 VCCINT (power), T13 VCCINT (power), U4 VCCIO2 (power), U8 VCCINT (power), U15 VCCINT (power), U16 VCCINT (power), U17 VCCINT (power), V7 VCCINT (power), V19 VCCIO5 (power), W4 VCCIO2 (power), W5 VCCIO3 (power), W9 VCCIO3 (power), W11 VCCIO3 (power), W12 VCCIO4 (power), W16 VCCIO4 (power), W18 VCCIO4 (power), Y19 VCCIO5 (power)
part L pins: A1 GND (power), A22 GND (power), AA2 GND (power), AA22 GND (power), AB1 GND (power), AB22 GND (power), C5 GND (power), C9 GND (power), C11 GND (power), C12 GND (power), C14 GND (power), C16 GND (power), D3 GND (power), E10 GND (power), E20 GND (power), F3 GND (power), F12 GND (power), F16 GND (power), G2 GND (power), G7 GND (power), G9 GND (power), G11 GND (power), G13 GND (power), G15 GND (power), G17 GND (power), G20 GND (power), H8 GND (power), H10 GND (power), H12 GND (power), H13 GND (power), H14 GND (power), H16 GND (power), J5 GND (power), J9 GND (power), J15 GND (power), J19 GND (power), K3 GND (power), K7 GND (power), K10 GND (power), K11 GND (power), K12 GND (power), K13 GND (power), K16 GND (power), L8 GND (power), L10 GND (power), L11 GND (power), L12 GND (power), L13 GND (power), L15 GND (power), L20 GND (power), M7 GND (power), M10 GND (power), M11 GND (power), M12 GND (power), M13 GND (power), N3 GND (power), N8 GND (power), N10 GND (power), N11 GND (power), N12 GND (power), N13 GND (power), N15 GND (power), N17 GND (power), P6 GND (power), P8 GND (power), P16 GND (power), P19 GND (power), R7 GND (power), R9 GND (power), R11 GND (power), R13 GND (power), R18 GND (power), T8 GND (power), T10 GND (power), T12 GND (power), T14 GND (power), U3 GND (power), U7 GND (power), U13 GND (power), U19 GND (power), V6 GND (power), V20 GND (power), W3 GND (power), Y5 GND (power), Y9 GND (power), Y11 GND (power), Y12 GND (power), Y16 GND (power), Y18 GND (power), Y20 GND (power), Y21 GND (power)
part M pins: E17 VCCD_PLL2 (power), E18 GNDA2 (power), F5 GNDA3 (power), F6 VCCD_PLL3 (power), F18 VCCA2 (power), G6 VCCA3 (power), T6 VCCA1 (power), U5 GNDA1 (power), U6 VCCD_PLL1 (power), U18 VCCA4 (power), V17 VCCD_PLL4 (power), V18 GNDA4 (power)
part A text: BANK 1
part B text: BANK 2
part C text: BANK 3
part D text: BANK 4
part E text: BANK 5
part F text: BANK 6
part G text: BANK 7
part H text: BANK 8

## ESD7016
designator IC?
Manufacturer Part Number 1: ESD7016MUTAG; Manufacturer: ON Semiconductor; Unidirectional Channels: 8; Capacitance @ Frequency: 0.15pF @ 1MHz; Power Line Protection: No; Voltage - Reverse Standoff (Typ): 5V (Max); Voltage - Breakdown (Min): 5.5V; Current - Peak Pulse (10/1000µs): 1A (8/20µs); Voltage - Clamping (Max) @ Ipp: 10V; Supplier 1: Digi-Key; Category: Circuit Protection; RoHS: RoHS Compliant; Bidirectional Channels: -; Packaging: Digi-Reel®; Type: Zener; Operating Temperature: -55°C ~ 125°C (TJ); Mounting Type: Surface Mount; Power - Peak Pulse: -; Package / Case: 8-UFSFN; Supplier Device Package: 8-UDFN (3.3x1.0); Applications: General Purpose; Supplier Part Number 1: ESD7016MUTAGOSDKR-ND
footprint ESD7016
pins: 1 I/O 1, 2 I/O 2, 3 VBUS/GND, 4 I/O 3, 5 I/O 4, 6 GND, 7 I/O 5, 8 I/O 6

## ESD8472
designator ESD?
Manufacturer: ON Semiconductor; Manufacturer Part Number: ESD8472MUT5G; Part Description: TVS DIODE 5.3VWM 14VC X3DFN2; Voltage - Reverse Standoff (Typ): 5.3V (Max); Voltage - Breakdown (Min): 7V; Voltage - Clamping (Max) @ Ipp: 14V; Current - Peak Pulse (10/1000µs): 3A (8/20µs); Power Line Protection: No; Capacitance @ Frequency: 0.2pF @ 1MHz; Supplier 1: Digi-Key; RoHS: RoHS Compliant; Category: Circuit Protection; Stock 1: 2295; Pricing 1: 1=0.39, 10=0.315, 100=0.2142, 500=0.16068, 1000=0.12051 (USD); Packaging: Cut Tape (CT); Part Status: Active; Type: Zener; Power - Peak Pulse: -; Applications: Automotive, RF Antenna; Operating Temperature: -55°C ~ 150°C (TJ); Mounting Type: Surface Mount; Package / Case: 2-XFDFN; Supplier Device Package: 2-X3DFN (0.62x0.32); ComponentLink1URL: http://www.onsemi.com/pub/Collateral/ESD8472-D.PDF; ComponentLink1Description: http://www.onsemi.com/pub/Collateral/ESD8472-D.PDF; Supplier Part Number 1: ESD8472MUT5GOSCT-ND
footprint ESD8472_X3DFN2
pins: 1, 2

## FDMC8878
designator VT?
Drain to Source Voltage (Vdss): 30V; Vgs(th) (Max) @ Id: 3V @ 250µA; Input Capacitance (Ciss) @ Vds: 1230pF @ 15V; Power - Max: 2.1W; Gate Charge (Qg) @ Vgs: 26nC @ 10V; Current - Continuous Drain (Id) @ 25°C: 9.6A (Ta), 16.5A (Tc); Rds On (Max) @ Id, Vgs: 14 mOhm @ 9.6A, 10V; Supplier 1: Digi-Key; Category: Discrete Semiconductor Products; Manufacturer Part Number: FDMC8878; Mounting Type: Surface Mount; Supplier Device Package: 8-Power33 (3x3); Package / Case: 8-PowerVDFN; Supplier Part Number 1: FDMC8878CT-ND
footprint FDMC8878 (SON, 8-Leads, Body 3,30x3,30mm, Pitch 0,65mm, Thermal Pad 1,20x0,75mm, IPC Medium Density)
pins: 1 S, 2 S, 3 S, 4 G, 5 D, 6 D, 7 D, 8 D

## Ferrite
designator FR?
footprint RES0402 (Chip Resistor, Body 1.0x0.5mm, EIA 0402, IPC Medium Density)
pins: 1, 2

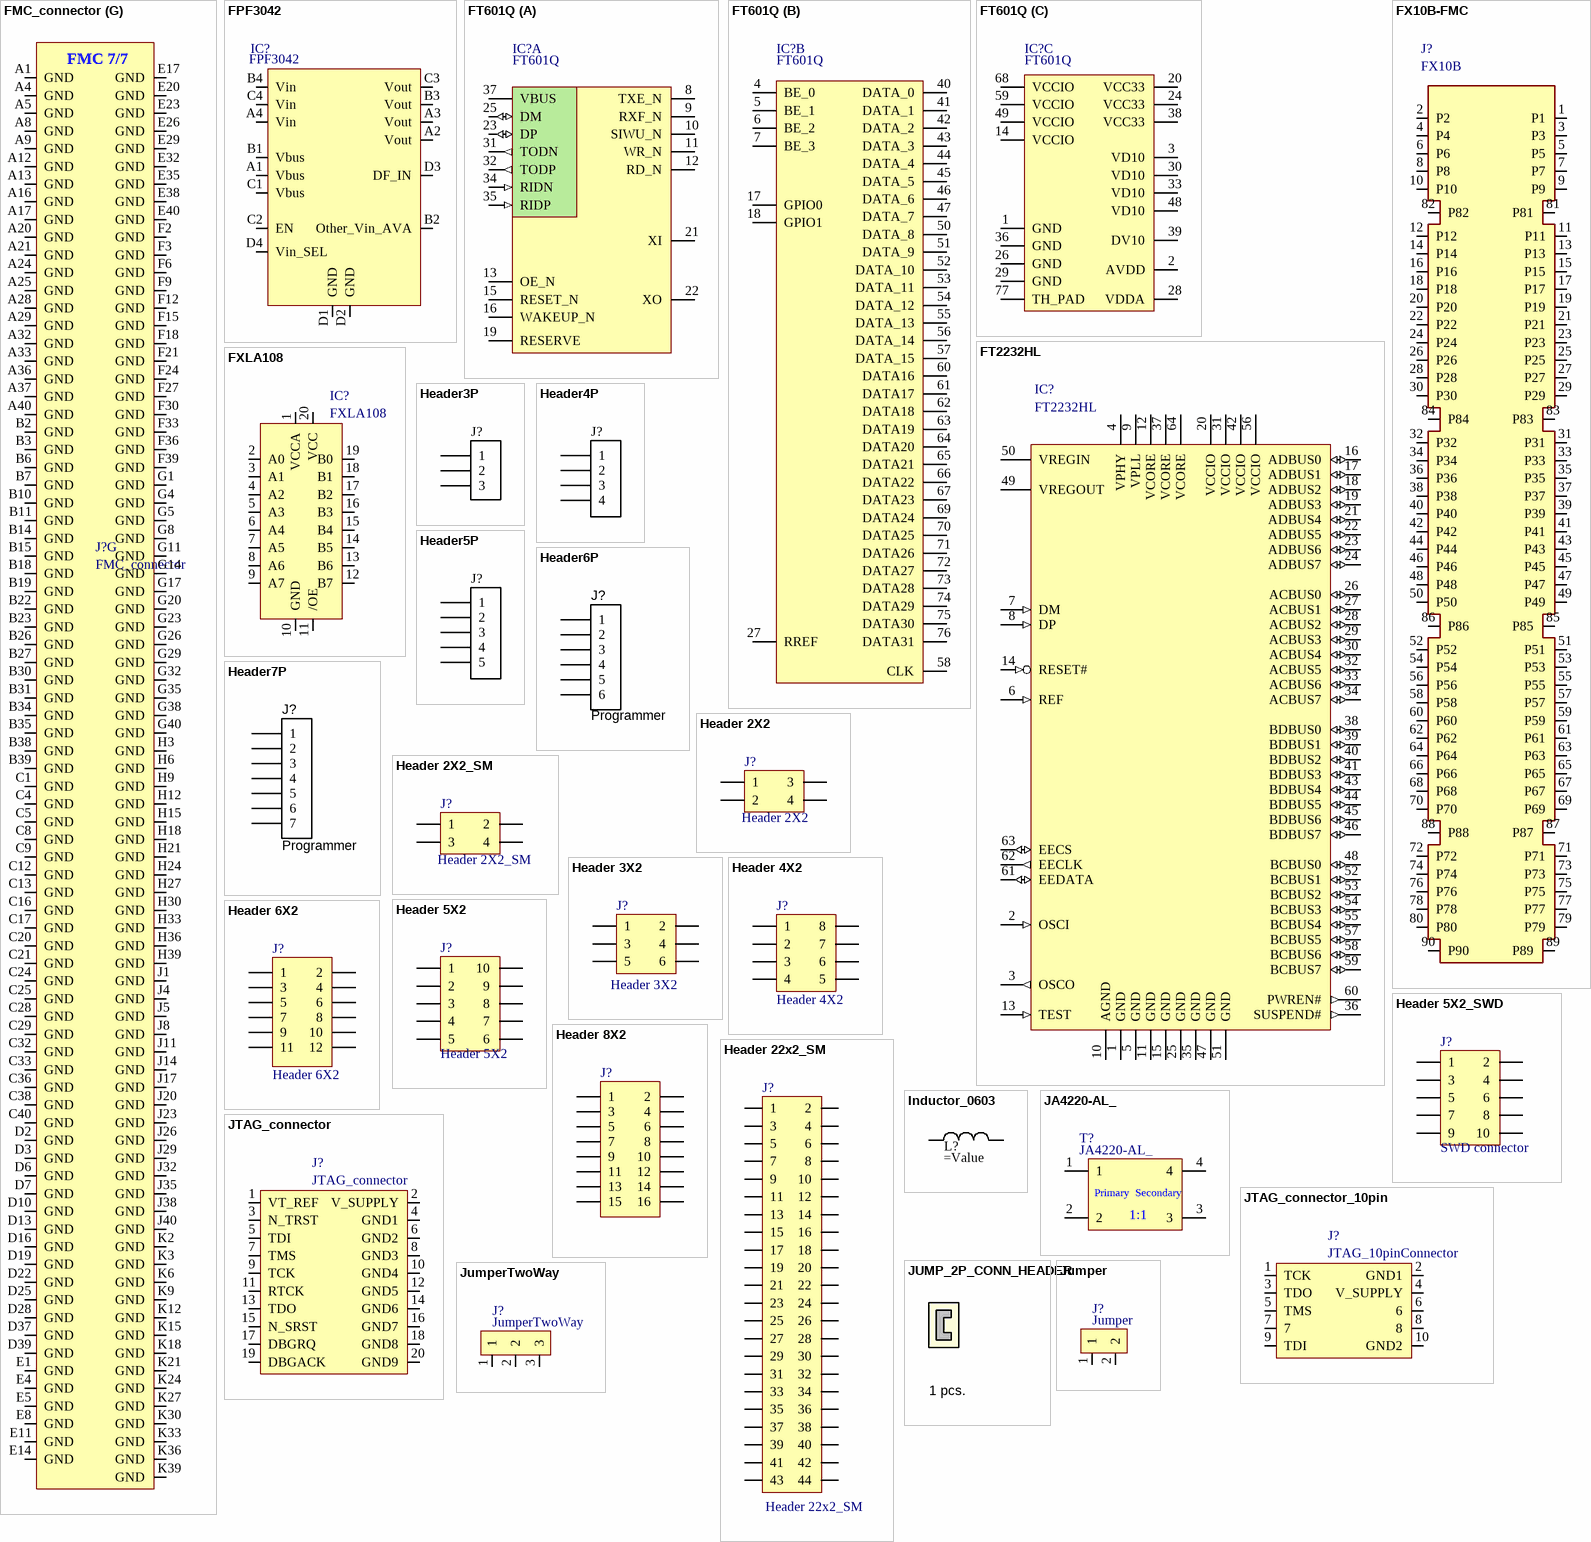
[diagram p26: symbols FMC_connector to JumperTwoWay]

## FMC_connector
designator J?
Manufacturer Part Number: ASP-134603-01; Supplier 1: Digi-Key; Category: Connectors, Interconnects; Supplier Part Number: SAM8729-ND
footprint FMC_full_conn
part A pins: C10 LA06_P, C11 LA06_N, C14 LA10_P, C15 LA10_N, C18 LA14_P, C19 LA14_N, C22 LA18_CC_P, C23 LA18_CC_N, C26 LA27_P, C27 LA27_N, D8 LA01_CC_P, D9 LA01_CC_N, D11 LA05_P, D12 LA05_N, D14 LA09_P, D15 LA09_N, D17 LA13_P, D18 LA13_N, D20 LA17_CC_P, D21 LA17_CC_N, D23 LA23_P, D24 LA23_N, D26 LA26_P, D27 LA26_N, G6 LA00_CC_P, G7 LA00_CC_N, G9 LA03_P, G10 LA03_N, G12 LA08_P, G13 LA08_N, G15 LA12_P, G16 LA12_N, G18 LA16_P, G19 LA16_N, G21 LA20_P, G22 LA20_N, G24 LA22_P, G25 LA22_N, G27 LA25_P, G28 LA25_N, G30 LA29_P, G31 LA29_N, G33 LA31_P, G34 LA31_N, G36 LA33_P, G37 LA33_N, H7 LA02_P, H8 LA02_N, H10 LA04_P, H11 LA04_N, H13 LA07_P, H14 LA07_N, H16 LA11_P, H17 LA11_N, H19 LA15_P, H20 LA15_N, H22 LA19_P, H23 LA19_N, H25 LA21_P, H26 LA21_N, H28 LA24_P, H29 LA24_N, H31 LA28_P, H32 LA28_N, H34 LA30_P, H35 LA30_N, H37 LA32_P, H38 LA32_N
part B pins: E2 HA01_CC_P, E3 HA01_CC_N, E6 HA05_P, E7 HA05_N, E9 HA09_P, E10 HA09_N, E12 HA13_P, E13 HA13_N, E15 HA16_P, E16 HA16_N, E18 HA20_P, E19 HA20_N, F4 HA00_CC_P, F5 HA00_CC_N, F7 HA04_P, F8 HA04_N, F10 HA08_P, F11 HA08_N, F13 HA12_P, F14 HA12_N, F16 HA15_P, F17 HA15_N, F19 HA19_P, F20 HA19_N, J6 HA03_P, J7 HA03_N, J9 HA07_P, J10 HA07_N, J12 HA11_P, J13 HA11_N, J15 HA14_P, J16 HA14_N, J18 HA18_P, J19 HA18_N, J21 HA22_P, J22 HA22_N, K7 HA02_P, K8 HA02_N, K10 HA06_P, K11 HA06_N, K13 HA10_P, K14 HA10_N, K16 HA17_CC_P, K17 HA17_CC_N, K19 HA21_P, K20 HA21_N, K22 HA23_P, K23 HA23_N
part C pins: E21 HB03_P, E22 HB03_N, E24 HB05_P, E25 HB05_N, E27 HB09_P, E28 HB09_N, E30 HB13_P, E31 HB13_N, E33 HB19_P, E34 HB19_N, E36 HB21_P, E37 HB21_N, F22 HB02_P, F23 HB02_N, F25 HB04_P, F26 HB04_N, F28 HB08_P, F29 HB08_N, F31 HB12_P, F32 HB12_N, F34 HB16_P, F35 HB16_N, F37 HB20_P, F38 HB20_N, J24 HB01_P, J25 HB01_N, J27 HB07_P, J28 HB07_N, J30 HB11_P, J31 HB11_N, J33 HB15_P, J34 HB15_N, J36 HB18_P, J37 HB18_N, K25 HB00_CC_P, K26 HB00_CC_N, K28 HB06_CC_P, K29 HB06_CC_N, K31 HB10_P, K32 HB10_N, K34 HB14_P, K35 HB14_N, K37 HB17_CC_P, K38 HB17_CC_N
part D pins: A2 DP1_M2C_P, A3 DP1_M2C_N, A6 DP2_M2C_P, A7 DP2_M2C_N, A10 DP3_M2C_P, A11 DP3_M2C_N, A14 DP4_M2C_P, A15 DP4_M2C_N, A18 DP5_M2C_P, A19 DP5_M2C_N, A22 DP1_C2M_P, A23 DP1_C2M_N, A26 DP2_C2M_P, A27 DP2_C2M_N, A30 DP3_C2M_P, A31 DP3_C2M_N, A34 DP4_C2M_P, A35 DP4_C2M_N, A38 DP5_C2M_P, A39 DP5_C2M_N, B4 DP9_M2C_P, B5 DP9_M2C_N, B8 DP8_M2C_P, B9 DP8_M2C_N, B12 DP7_M2C_P, B13 DP7_M2C_N, B16 DP6_M2C_P, B17 DP6_M2C_N, B24 DP9_C2M_P, B25 DP9_C2M_N, B28 DP8_C2M_P, B29 DP8_C2M_N, B32 DP7_C2M_P, B33 DP7_C2M_N, B36 DP6_C2M_P, B37 DP6_C2M_N, C2 DP0_C2M_P, C3 DP0_C2M_N, C6 DP0_M2C_P, C7 DP0_M2C_N
part E pins: B1 RES1, B20 GBTCLK1_M2C_P, B21 GBTCLK1_M2C_N, B40 RES0, C30 SCL, C31 SDA, C34 GA0, D1 PG_C2M, D4 GBTCLK0_M2C_P, D5 GBTCLK0_M2C_N, D29 TCK, D30 TDI, D31 TDO, D33 TMS, D34 TRST_L, D35 GA1, F1 PG_M2C, G2 CLK0_C2M_P, G3 CLK0_C2M_N, H2 PRSNT_M2C_L, H4 CLK0_M2C_P, H5 CLK0_M2C_N, J2 CLK1_C2M_P, J3 CLK1_C2M_N, K4 CLK1_M2C_P, K5 CLK1_M2C_N
part F pins: C35 12P0V, C37 12P0V, C39 3P3V, D32 3P3VAUX, D36 3P3V, D38 3P3V, D40 3P3V, E39 VADJ, F40 VADJ, G39 VADJ, H1 VREF_A_M2C, H40 VADJ, J39 VIO_B_M2C, K1 VREF_B_M2C, K40 VIO_B_M2C
part G pins: A1 GND, A4 GND, A5 GND, A8 GND, A9 GND, A12 GND, A13 GND, A16 GND, A17 GND, A20 GND, A21 GND, A24 GND, A25 GND, A28 GND, A29 GND, A32 GND, A33 GND, A36 GND, A37 GND, A40 GND, B2 GND, B3 GND, B6 GND, B7 GND, B10 GND, B11 GND, B14 GND, B15 GND, B18 GND, B19 GND, B22 GND, B23 GND, B26 GND, B27 GND, B30 GND, B31 GND, B34 GND, B35 GND, B38 GND, B39 GND, C1 GND, C4 GND, C5 GND, C8 GND, C9 GND, C12 GND, C13 GND, C16 GND, C17 GND, C20 GND, C21 GND, C24 GND, C25 GND, C28 GND, C29 GND, C32 GND, C33 GND, C36 GND, C38 GND, C40 GND, D2 GND, D3 GND, D6 GND, D7 GND, D10 GND, D13 GND, D16 GND, D19 GND, D22 GND, D25 GND, D28 GND, D37 GND, D39 GND, E1 GND, E4 GND, E5 GND, E8 GND, E11 GND, E14 GND, E17 GND, E20 GND, E23 GND, E26 GND, E29 GND, E32 GND, E35 GND, E38 GND, E40 GND, F2 GND, F3 GND, F6 GND, F9 GND, F12 GND, F15 GND, F18 GND, F21 GND, F24 GND, F27 GND, F30 GND, F33 GND, F36 GND, F39 GND, G1 GND, G4 GND, G5 GND, G8 GND, G11 GND, G14 GND, G17 GND, G20 GND, G23 GND, G26 GND, G29 GND, G32 GND, G35 GND, G38 GND, G40 GND, H3 GND, H6 GND, H9 GND, H12 GND, H15 GND, H18 GND, H21 GND, H24 GND, H27 GND, H30 GND, H33 GND, H36 GND, H39 GND, J1 GND, J4 GND, J5 GND, J8 GND, J11 GND, J14 GND, J17 GND, J20 GND, J23 GND, J26 GND, J29 GND, J32 GND, J35 GND, J38 GND, J40 GND, K2 GND, K3 GND, K6 GND, K9 GND, K12 GND, K15 GND, K18 GND, K21 GND, K24 GND, K27 GND, K30 GND, K33 GND, K36 GND, K39 GND
part A text: FMC 1/7
part B text: FMC 2/7
part C text: FMC 3/7
part D text: FMC 4/7
part E text: FMC 5/7; clocks /; JTAG /; misc /; I2C /
part F text: FMC 6/7; power /; VREF /
part G text: FMC 7/7

## FPF3042
designator IC?
Manufacturer: Fairchild Semiconductor; Manufacturer Part Number 1: FPF3042UCX; Current - Output (Max): 2.7A; Voltage - Supply: 4 V ~ 12.4 V; FET Type: N-Channel; Internal Switch(s): Yes; Current - Supply: 55µA; Ratio - Input:Output: 2:1; Supplier 1: Digi-Key; Operating Temperature: -40°C ~ 85°C; Type: Source Selector Switch; Delay Time - OFF: -; Package / Case: 16-UFBGA, WLCSP; Delay Time - ON: -; Mounting Type: Surface Mount; Applications: Handheld/Mobile Devices; Supplier Device Package: 16-WLCSP; Packaging: Cut Tape (CT); Category: Integrated Circuits (ICs); RoHS: RoHS Compliant; Supplier Part Number 1: FPF3042UCXCT-ND
footprint FPF3042
pins: A1 Vbus, A2 Vout, A3 Vout, A4 Vin, B1 Vbus, B2 Other_Vin_AVA, B3 Vout, B4 Vin, C1 Vbus, C2 EN, C3 Vout, C4 Vin, D1 GND, D2 GND, D3 DF_IN, D4 Vin_SEL

## FT601Q
designator IC?
Manufacturer: FTDI, Future Technology Devices International Ltd; Manufacturer Part Number 1: FT601Q-T; Function: Bridge, USB to FIFO; Standards: USB 3.0; Voltage - Supply: 1.65 V ~ 3.6 V; Protocol: USB; Interface: FIFO; Supplier 1: Digi-Key; Operating Temperature: -40°C ~ 85°C; Packaging: Tray; Category: Integrated Circuits (ICs); Package / Case: 76-VFQFN Exposed Pad; Supplier Device Package: 76-QFN (9x9); Current - Supply: -; RoHS: RoHS Compliant; Supplier Part Number 1: 768-1252-ND
footprint FT601Q (QFN, 76-Leads, Body 9,05x9,05mm, Pitch 0,40mm, Thermal Pad 5,55x5,55mm, IPC High Density)
part A pins: 8 TXE_N, 9 RXF_N, 10 SIWU_N, 11 WR_N, 12 RD_N, 13 OE_N, 15 RESET_N, 16 WAKEUP_N, 19 RESERVE, 21 XI, 22 XO, 23 DP (io), 25 DM (io), 31 TODN (out), 32 TODP (out), 34 RIDN (in), 35 RIDP (in), 37 VBUS
part B pins: 4 BE_0, 5 BE_1, 6 BE_2, 7 BE_3, 17 GPIO0, 18 GPIO1, 27 RREF, 40 DATA_0, 41 DATA_1, 42 DATA_2, 43 DATA_3, 44 DATA_4, 45 DATA_5, 46 DATA_6, 47 DATA_7, 50 DATA_8, 51 DATA_9, 52 DATA_10, 53 DATA_11, 54 DATA_12, 55 DATA_13, 56 DATA_14, 57 DATA_15, 58 CLK, 60 DATA16, 61 DATA17, 62 DATA18, 63 DATA19, 64 DATA20, 65 DATA21, 66 DATA22, 67 DATA23, 69 DATA24, 70 DATA25, 71 DATA26, 72 DATA27, 73 DATA28, 74 DATA29, 75 DATA30, 76 DATA31
part C pins: 1 GND, 2 AVDD, 3 VD10, 14 VCCIO, 20 VCC33, 24 VCC33, 26 GND, 28 VDDA, 29 GND, 30 VD10, 33 VD10, 36 GND, 38 VCC33, 39 DV10, 48 VD10, 49 VCCIO, 59 VCCIO, 68 VCCIO, 77 TH_PAD

## FT2232HL
designator IC?
Manufacturer: FTDI, Future Technology Devices International Ltd; Voltage - Supply: 3 V ~ 3.6 V; Current - Supply: 70mA; Standards: USB 2.0; Interface: UART; Function: Bridge, USB to UART; Supplier 1: Digi-Key; Category: Integrated Circuits (ICs); Package / Case: 64-LQFP; Supplier Part Number 1: 768-1024-2-ND
footprint FT2232HL_LQFP-64_M (Thin QFP, 64-Leads, Body 10x10mm, Pitch 0.5mm, IPC Low Density)
pins: 1 GND (power), 2 OSCI (in), 3 OSCO (out), 4 VPHY (power), 5 GND (power), 6 REF (in), 7 DM (in), 8 DP (in), 9 VPLL (power), 10 AGND (power), 11 GND (power), 12 VCORE (power), 13 TEST (in), 14 RESET# (in), 15 GND (power), 16 ADBUS0 (io), 17 ADBUS1 (io), 18 ADBUS2 (io), 19 ADBUS3 (io), 20 VCCIO (power), 21 ADBUS4 (io), 22 ADBUS5 (io), 23 ADBUS6 (io), 24 ADBUS7 (io), 25 GND (power), 26 ACBUS0 (io), 27 ACBUS1 (io), 28 ACBUS2 (io), 29 ACBUS3 (io), 30 ACBUS4 (io), 31 VCCIO (power), 32 ACBUS5 (io), 33 ACBUS6 (io), 34 ACBUS7 (io), 35 GND (power), 36 SUSPEND# (out), 37 VCORE (power), 38 BDBUS0 (io), 39 BDBUS1 (io), 40 BDBUS2 (io), 41 BDBUS3 (io), 42 VCCIO (power), 43 BDBUS4 (io), 44 BDBUS5 (io), 45 BDBUS6 (io), 46 BDBUS7 (io), 47 GND (power), 48 BCBUS0 (io), 49 VREGOUT (power), 50 VREGIN (power), 51 GND (power), 52 BCBUS1 (io), 53 BCBUS2 (io), 54 BCBUS3 (io), 55 BCBUS4 (io), 56 VCCIO (power), 57 BCBUS5 (io), 58 BCBUS6 (io), 59 BCBUS7 (io), 60 PWREN# (out), 61 EEDATA (io), 62 EECLK (out), 63 EECS (io), 64 VCORE (power)

## FX10B-FMC
designator J?, comment FX10B
Manufacturer Part Number 1: FX10B-80S/8-SV(71); Current Rating: 300 mA; Voltage Rating: 50 V; Brand: Hirose Connector; Pitch: 0.5 mm; Number of Positions: 80; Supplier 1: Mouser; Category: Board to Board & Mezzanine Connectors; Contact Plating: Gold; Series: FX10; Termination Style: SMD; Manufacturer: Hirose Connector; Supplier: Mouser; Supplier Part Number 1: 798-FX10B80S8SV71
footprint FX10B-80S/8-SV
pins: 1 P1, 2 P2, 3 P3, 4 P4, 5 P5, 6 P6, 7 P7, 8 P8, 9 P9, 10 P10, 11 P11, 12 P12, 13 P13, 14 P14, 15 P15, 16 P16, 17 P17, 18 P18, 19 P19, 20 P20, 21 P21, 22 P22, 23 P23, 24 P24, 25 P25, 26 P26, 27 P27, 28 P28, 29 P29, 30 P30, 31 P31, 32 P32, 33 P33, 34 P34, 35 P35, 36 P36, 37 P37, 38 P38, 39 P39, 40 P40, 41 P41, 42 P42, 43 P43, 44 P44, 45 P45, 46 P46, 47 P47, 48 P48, 49 P49, 50 P50, 51 P51, 52 P52, 53 P53, 54 P54, 55 P55, 56 P56, 57 P57, 58 P58, 59 P59, 60 P60, 61 P61, 62 P62, 63 P63, 64 P64, 65 P65, 66 P66, 67 P67, 68 P68, 69 P69, 70 P70, 71 P71, 72 P72, 73 P73, 74 P74, 75 P75, 76 P76, 77 P77, 78 P78, 79 P79, 80 P80, 81 P81, 82 P82, 83 P83, 84 P84, 85 P85, 86 P86, 87 P87, 88 P88, 89 P89, 90 P90

## FXLA108
designator IC?
Manufacturer: Fairchild Semiconductor; Logic Function: Translator, Bidirectional, Unidirectional, 3-State; Data Rate: 140Mbps; Voltage - Supply: 1.1 V ~ 3.6 V; Propagation Delay (Max): 4ns; Supplier 1: Digi-Key; Supplier Device Package: 20-DQFN; Category: Integrated Circuits (ICs); Supplier Part Number 1: FXLA108BQXCT-ND
footprint FXLA108 (PQFN, 20-Leads, Body 2,50x4,50mm, Pitch 0,50mm, Thermal Pad 1,00x2,55mm, IPC Medium Density)
pins: 1 VCCA, 2 A0, 3 A1, 4 A2, 5 A3, 6 A4, 7 A5, 8 A6, 9 A7, 10 GND, 11 /OE, 12 B7, 13 B6, 14 B5, 15 B4, 16 B3, 17 B2, 18 B1, 19 B0, 20 VCC

## Header3P
designator J?, comment Header 3x1 pin  (value not drawn)
Header, 3-pin
footprint hdr1x3 (Connector; Header; 3 Position)
pins: 1, 2, 3

## Header4P
designator J?, comment Programmer  (value not drawn)
Header, 4-pin
footprint HEADER4X1_TH
pins: 1, 2, 3, 4

## Header5P
designator J?, comment Programmer  (value not drawn)
Header, 5-pin
footprint Header5x1_TH
pins: 1, 2, 3, 4, 5

## Header6P
designator J?, comment Programmer
Header, 6-pin
footprint HDR1X6 (Connector; Header; 6 Position)
pins: 1, 2, 3, 4, 5, 6

## Header7P
designator J?, comment Programmer
Header, 7-pin; Manufacturer: Sullins Connector Solutions; Manufacturer Part Number 1: PEC07SAAN; Part Description: 7 Positions Header, Unshrouded, Breakaway Connector 0.100" (2.54mm) Through Hole Tin; Number of Positions Loaded: All; Pitch: 0.100" (2.54mm); Number of Positions: 7; Connector Type: Header, Unshrouded, Breakaway; Supplier 1: Digi-Key; Color: Black; Packaging: Bulk; Category: Connectors, Interconnects; Contact Finish: Tin; Number of Rows: 1; RoHS: RoHS Compliant; Contact Type: Male Pin; Mounting Type: Through Hole; Features: -; Contact Mating Length: 0.230" (5.84mm); Termination: Solder; Fastening Type: -; Contact Finish Thickness: 100µin (2.54µm); Row Spacing: -; Supplier Part Number 1: S1012E-07-ND
footprint Header7x1_TH
pins: 1, 2, 3, 4, 5, 6, 7

## Header 2X2
designator J?
Header, 2-Pin, Dual row
footprint Header2x2_TH
pins: 1, 2, 3, 4

## Header 2X2_SM
designator J?
Header, 2-Pin, Dual row
footprint Header2x2_SM
pins: 1, 2, 3, 4

## Header 3X2
designator J?
Header, 2-Pin, Dual row
footprint Header3x2
pins: 1, 2, 3, 4, 5, 6

## Header 4X2
designator J?
Header, 4-Pin, Dual row
footprint Header4x2_SM
pins: 1, 2, 3, 4, 5, 6, 7, 8

## Header 5X2
designator J?
Header, 5-Pin, Dual row
footprint Header5x2_SM
pins: 1, 2, 3, 4, 5, 6, 7, 8, 9, 10

## Header 5X2_SWD
designator J?, comment SWD connector
Header, 5-Pin, Dual row; Manufacturer Part Number 1: M50-3600542; Manufacturer: Harwin Inc; Number of Positions: 10; Molding Height Above Board: 0.039" (1.00mm); Row Spacing: 0.050" (1.27mm); Number of Positions Loaded: All; Connector Type: Unshrouded; Supplier 1: Digi-Key; Contact Mating Length: 0.118" (3.00mm); Category: Connectors, Interconnects; Color: Black; RoHS: RoHS Compliant; Number of Rows: 2; Contact Finish Thickness: 3µin (0.08µm); Height Stacking (Mating): -; Contact Finish: Gold; Termination: Solder; Mounting Type: Surface Mount; Pitch: 0.050" (1.27mm); Features: -; Packaging: Bulk; Supplier Part Number 1: 952-1389-ND
footprint SWD_10_pin
pins: 1, 2, 3, 4, 5, 6, 7, 8, 9, 10

## Header 6X2
designator J?
Header, 8-Pin, Dual row
footprint Header6x2_SM
pins: 1, 2, 3, 4, 5, 6, 7, 8, 9, 10, 11, 12

## Header 8X2
designator J?
Header, 8-Pin, Dual row; LatestRevisionDate: 17-Jul-2002; LatestRevisionNote: Re-released for DXP Platform.; Publisher: Altium Limited
pins: 1, 2, 3, 4, 5, 6, 7, 8, 9, 10, 11, 12, 13, 14, 15, 16